# Altium integrated library Renesas Microcontroller H8S.IntLib: 670 symbols (part 65 of 70)
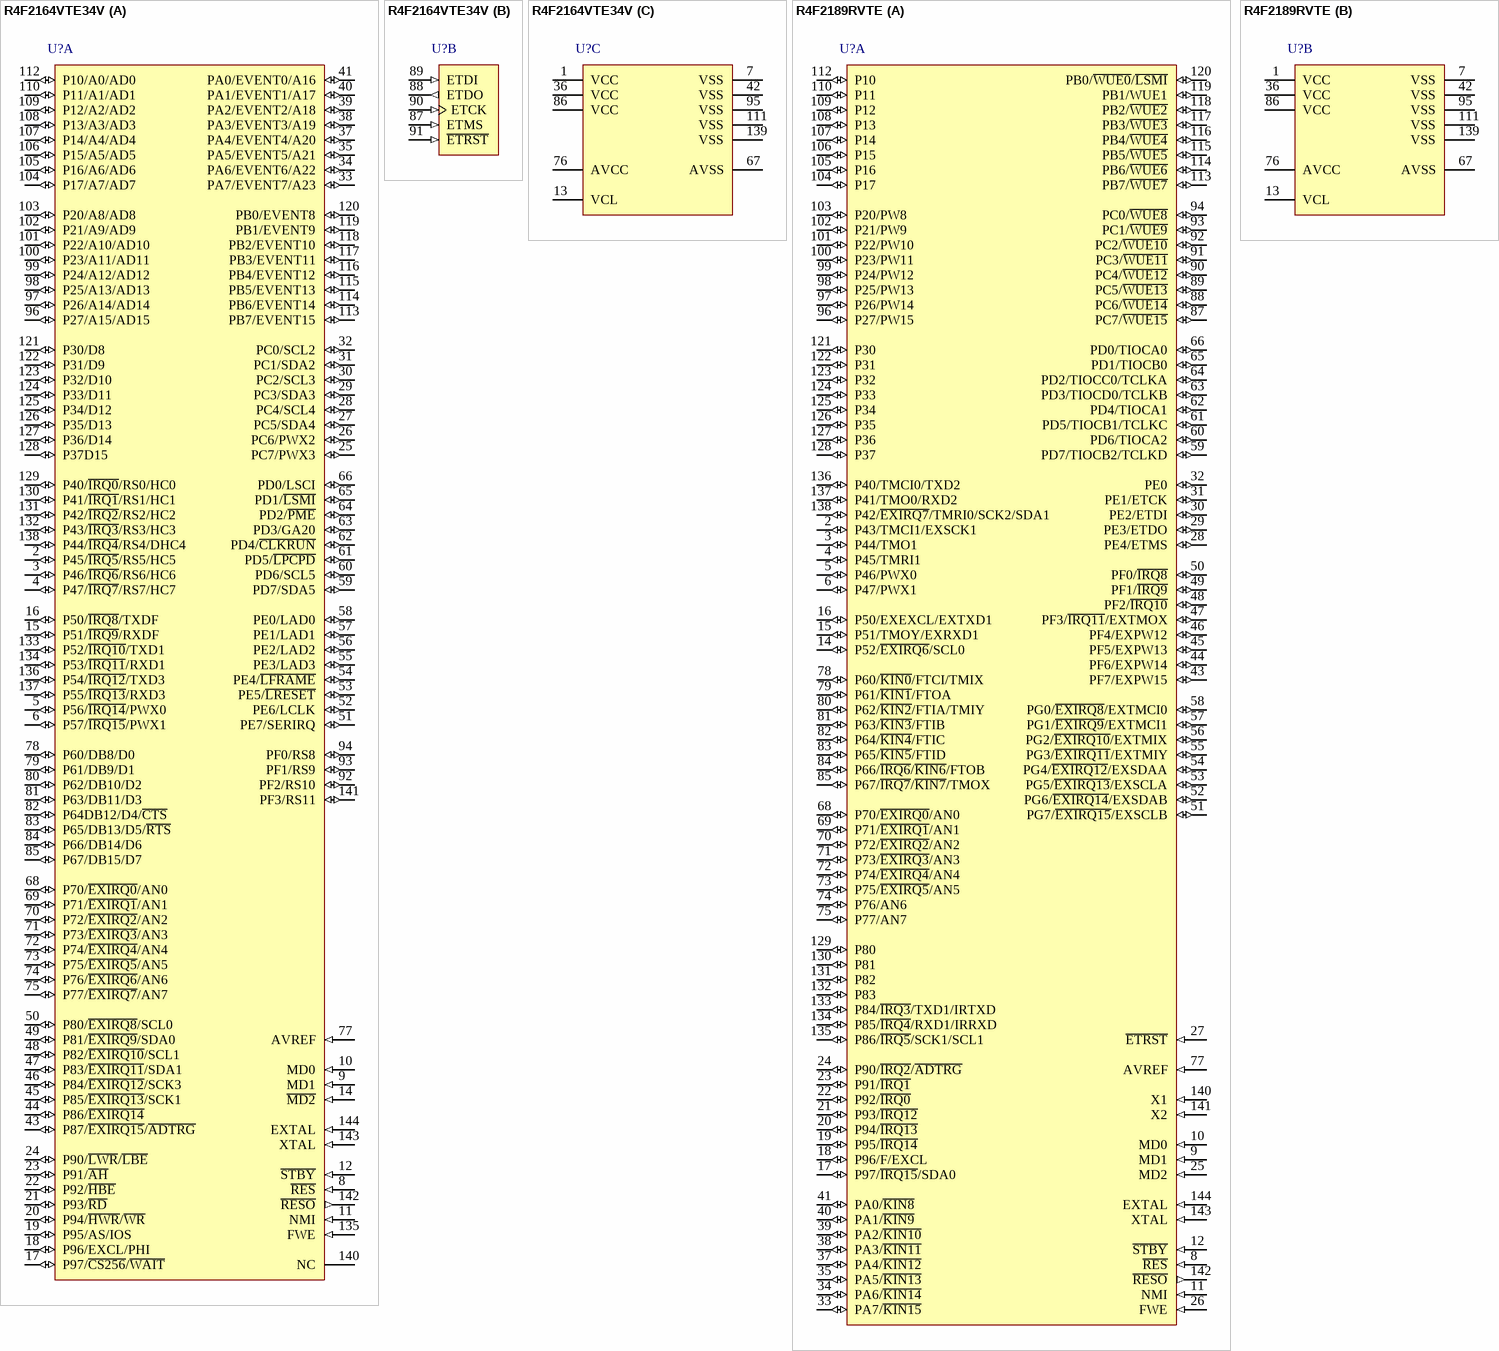
[diagram p277: symbols R4F2164VTE34V to R4F2189RVTE]

## R4F2164VTE34V
designator U?
Flash memory H8S/2100 Series, 2164 Group MCU, 512K ROM, 40K RAM, TFP-144V Pkg; Published: 28-Aug-2009; DatasheetVersion: Rev.2.00, Sep-2009; PackageVersion: Sep-2005; PackageReference: PTQP0144LC-A; Publisher: Altium Limited; PackageDescription: 144-Pin Plastic Thin Quad Flat Pack, 16 x 16 mm Body, 0.4 mm Pitch; Supplier 1: Digi-Key; Supplier Part Number 1: R4F2164VTE34V-ND; Code_JEITA: P-TQFP144-16x16-0.40; ComponentLink1Description: Manufacturer Link; ComponentLink1URL: http://sg.renesas.com/fmwk.jsp?cnt=h8s_family_landing.jsp&fp=/products/mpumcu/h8s_family/; ComponentLink2Description: Datasheet; ComponentLink2URL: http://documentation.renesas.com/eng/products/mpumcu/rej09b0429_h8s2164hm.pdf; ComponentLink3Description: Packaging Specification; ComponentLink3URL: http://sg.renesas.com/media/products/common_info/package/pdf/ic/code/ptqp0144lc_a.pdf
footprint PTQP0144LC-A_N (Thin QFP, 144-Leads, Body 16x16mm, Pitch 0.4mm, IPC Medium Density)
footprint PTQP0144LC-A_L (Thin QFP, 144-Leads, Body 16x16mm, Pitch 0.4mm, IPC High Density)
footprint PTQP0144LC-A_M (Thin QFP, 144-Leads, Body 16x16mm, Pitch 0.4mm, IPC Low Density)
part A pins: 2 P45/~{IRQ5}/RS5/HC5 (io), 3 P46/~{IRQ6}/RS6/HC6 (io), 4 P47/~{IRQ7}/RS7/HC7 (io), 5 P56/~{IRQ14}/PWX0 (io), 6 P57/~{IRQ15}/PWX1 (io), 8 ~{RES} (in), 9 MD1 (in), 10 MD0 (in), 11 NMI (in), 12 ~{STBY} (in), 14 ~{MD2} (in), 15 P51/~{IRQ9}/RXDF (io), 16 P50/~{IRQ8}/TXDF (io), 17 P97/~{CS256}/~{WAIT} (io), 18 P96/EXCL/PHI (io), 19 P95/AS/IOS (io), 20 P94/~{HWR}/~{WR} (io), 21 P93/~{RD} (io), 22 P92/~{HBE} (io), 23 P91/~{AH} (io), 24 P90/~{LWR}/~{LBE} (io), 25 PC7/PWX3 (io), 26 PC6/PWX2 (io), 27 PC5/SDA4 (io), 28 PC4/SCL4 (io), 29 PC3/SDA3 (io), 30 PC2/SCL3 (io), 31 PC1/SDA2 (io), 32 PC0/SCL2 (io), 33 PA7/EVENT7/A23 (io), 34 PA6/EVENT6/A22 (io), 35 PA5/EVENT5/A21 (io), 37 PA4/EVENT4/A20 (io), 38 PA3/EVENT3/A19 (io), 39 PA2/EVENT2/A18 (io), 40 PA1/EVENT1/A17 (io), 41 PA0/EVENT0/A16 (io), 43 P87/~{EXIRQ15}/~{ADTRG} (io), 44 P86/~{EXIRQ14} (io), 45 P85/~{EXIRQ13}/SCK1 (io), 46 P84/~{EXIRQ12}/SCK3 (io), 47 P83/~{EXIRQ11}/SDA1 (io), 48 P82/~{EXIRQ10}/SCL1 (io), 49 P81/~{EXIRQ9}/SDA0 (io), 50 P80/~{EXIRQ8}/SCL0 (io), 51 PE7/SERIRQ (io), 52 PE6/LCLK (io), 53 PE5/~{LRESET} (io), 54 PE4/~{LFRAME} (io), 55 PE3/LAD3 (io), 56 PE2/LAD2 (io), 57 PE1/LAD1 (io), 58 PE0/LAD0 (io), 59 PD7/SDA5 (io), 60 PD6/SCL5 (io), 61 PD5/~{LPCPD} (io), 62 PD4/~{CLKRUN} (io), 63 PD3/GA20 (io), 64 PD2/~{PME} (io), 65 PD1/~{LSMI} (io), 66 PD0/LSCI (io), 68 P70/~{EXIRQ0}/AN0 (io), 69 P71/~{EXIRQ1}/AN1 (io), 70 P72/~{EXIRQ2}/AN2 (io), 71 P73/~{EXIRQ3}/AN3 (io), 72 P74/~{EXIRQ4}/AN4 (io), 73 P75/~{EXIRQ5}/AN5 (io), 74 P76/~{EXIRQ6}/AN6 (io), 75 P77/~{EXIRQ7}/AN7 (io), 77 AVREF (in), 78 P60/DB8/D0 (io), 79 P61/DB9/D1 (io), 80 P62/DB10/D2 (io), 81 P63/DB11/D3 (io), 82 P64DB12/D4/~{CTS} (io), 83 P65/DB13/D5/~{RTS} (io), 84 P66/DB14/D6 (io), 85 P67/DB15/D7 (io), 92 PF2/RS10 (io), 93 PF1/RS9 (io), 94 PF0/RS8 (io), 96 P27/A15/AD15 (io), 97 P26/A14/AD14 (io), 98 P25/A13/AD13 (io), 99 P24/A12/AD12 (io), 100 P23/A11/AD11 (io), 101 P22/A10/AD10 (io), 102 P21/A9/AD9 (io), 103 P20/A8/AD8 (io), 104 P17/A7/AD7 (io), 105 P16/A6/AD6 (io), 106 P15/A5/AD5 (io), 107 P14/A4/AD4 (io), 108 P13/A3/AD3 (io), 109 P12/A2/AD2 (io), 110 P11/A1/AD1 (io), 112 P10/A0/AD0 (io), 113 PB7/EVENT15 (io), 114 PB6/EVENT14 (io), 115 PB5/EVENT13 (io), 116 PB4/EVENT12 (io), 117 PB3/EVENT11 (io), 118 PB2/EVENT10 (io), 119 PB1/EVENT9 (io), 120 PB0/EVENT8 (io), 121 P30/D8 (io), 122 P31/D9 (io), 123 P32/D10 (io), 124 P33/D11 (io), 125 P34/D12 (io), 126 P35/D13 (io), 127 P36/D14 (io), 128 P37D15 (io), 129 P40/~{IRQ0}/RS0/HC0 (io), 130 P41/~{IRQ1}/RS1/HC1 (io), 131 P42/~{IRQ2}/RS2/HC2 (io), 132 P43/~{IRQ3}/RS3/HC3 (io), 133 P52/~{IRQ10}/TXD1 (io), 134 P53/~{IRQ11}/RXD1 (io), 135 FWE (in), 136 P54/~{IRQ12}/TXD3 (io), 137 P55/~{IRQ13}/RXD3 (io), 138 P44/~{IRQ4}/RS4/DHC4 (io), 140 NC, 141 PF3/RS11 (io), 142 ~{RESO} (out), 143 XTAL (in), 144 EXTAL (in)
part B pins: 87 ETMS (in), 88 ETDO (out), 89 ETDI (in), 90 ETCK (in), 91 ~{ETRST} (in)
part C pins: 1 VCC (power), 7 VSS (power), 13 VCL, 36 VCC (power), 42 VSS (power), 67 AVSS (power), 76 AVCC (power), 86 VCC (power), 95 VSS (power), 111 VSS (power), 139 VSS (power)

## R4F2189RVTE
designator U?
Flash memory H8S/2100 Series, 2189R Group MCU, 1M ROM, 6K RAM, TFP-144 Pkg; Published: 28-Aug-2009; DatasheetVersion: Rev.2.00, Aug-2005; PackageVersion: Sep-2005; PackageReference: PTQP0144LC-A; Publisher: Altium Limited; PackageDescription: 144-Pin Plastic Thin Quad Flat Pack, 16 x 16 mm Body, 0.4 mm Pitch; Code_JEITA: P-TQFP144-16x16-0.40; ComponentLink1Description: Manufacturer Link; ComponentLink1URL: http://sg.renesas.com/fmwk.jsp?cnt=h8s_family_landing.jsp&fp=/products/mpumcu/h8s_family/; ComponentLink2Description: Datasheet; ComponentLink2URL: http://documentation.renesas.com/eng/products/mpumcu/rej09b0223_h8s2189.pdf; ComponentLink3Description: Packaging Specification; ComponentLink3URL: http://sg.renesas.com/media/products/common_info/package/pdf/ic/code/ptqp0144lc_a.pdf
footprint PTQP0144LC-A_N (Thin QFP, 144-Leads, Body 16x16mm, Pitch 0.4mm, IPC Medium Density)
footprint PTQP0144LC-A_L (Thin QFP, 144-Leads, Body 16x16mm, Pitch 0.4mm, IPC High Density)
footprint PTQP0144LC-A_M (Thin QFP, 144-Leads, Body 16x16mm, Pitch 0.4mm, IPC Low Density)
part A pins: 2 P43/TMCI1/EXSCK1 (io), 3 P44/TMO1 (io), 4 P45/TMRI1 (io), 5 P46/PWX0 (io), 6 P47/PWX1 (io), 8 ~{RES} (in), 9 MD1 (in), 10 MD0 (in), 11 NMI (in), 12 ~{STBY} (in), 14 P52/~{EXIRQ6}/SCL0 (io), 15 P51/TMOY/EXRXD1 (io), 16 P50/EXEXCL/EXTXD1 (io), 17 P97/~{IRQ15}/SDA0 (io), 18 P96/F/EXCL (io), 19 P95/~{IRQ14} (io), 20 P94/~{IRQ13} (io), 21 P93/~{IRQ12} (io), 22 P92/~{IRQ0} (io), 23 P91/~{IRQ1} (io), 24 P90/~{IRQ2}/~{ADTRG} (io), 25 MD2 (in), 26 FWE (in), 27 ~{ETRST} (in), 28 PE4/ETMS (io), 29 PE3/ETDO (io), 30 PE2/ETDI (io), 31 PE1/ETCK (io), 32 PE0 (io), 33 PA7/~{KIN15} (io), 34 PA6/~{KIN14} (io), 35 PA5/~{KIN13} (io), 37 PA4/~{KIN12} (io), 38 PA3/~{KIN11} (io), 39 PA2/~{KIN10} (io), 40 PA1/~{KIN9} (io), 41 PA0/~{KIN8} (io), 43 PF7/EXPW15 (io), 44 PF6/EXPW14 (io), 45 PF5/EXPW13 (io), 46 PF4/EXPW12 (io), 47 PF3/~{IRQ11}/EXTMOX (io), 48 PF2/~{IRQ10} (io), 49 PF1/~{IRQ9} (io), 50 PF0/~{IRQ8} (io), 51 PG7/~{EXIRQ15}/EXSCLB (io), 52 PG6/~{EXIRQ14}/EXSDAB (io), 53 PG5/~{EXIRQ13}/EXSCLA (io), 54 PG4/~{EXIRQ12}/EXSDAA (io), 55 PG3/~{EXIRQ11}/EXTMIY (io), 56 PG2/~{EXIRQ10}/EXTMIX (io), 57 PG1/~{EXIRQ9}/EXTMCI1 (io), 58 PG0/~{EXIRQ8}/EXTMCI0 (io), 59 PD7/TIOCB2/TCLKD (io), 60 PD6/TIOCA2 (io), 61 PD5/TIOCB1/TCLKC (io), 62 PD4/TIOCA1 (io), 63 PD3/TIOCD0/TCLKB (io), 64 PD2/TIOCC0/TCLKA (io), 65 PD1/TIOCB0 (io), 66 PD0/TIOCA0 (io), 68 P70/~{EXIRQ0}/AN0 (io), 69 P71/~{EXIRQ1}/AN1 (io), 70 P72/~{EXIRQ2}/AN2 (io), 71 P73/~{EXIRQ3}/AN3 (io), 72 P74/~{EXIRQ4}/AN4 (io), 73 P75/~{EXIRQ5}/AN5 (io), 74 P76/AN6 (io), 75 P77/AN7 (io), 77 AVREF (in), 78 P60/~{KIN0}/FTCI/TMIX (io), 79 P61/~{KIN1}/FTOA (io), 80 P62/~{KIN2}/FTIA/TMIY (io), 81 P63/~{KIN3}/FTIB (io), 82 P64/~{KIN4}/FTIC (io), 83 P65/~{KIN5}/FTID (io), 84 P66/~{IRQ6}/~{KIN6}/FTOB (io), 85 P67/~{IRQ7}/~{KIN7}/TMOX (io), 87 PC7/~{WUE15} (io), 88 PC6/~{WUE14} (io), 89 PC5/~{WUE13} (io), 90 PC4/~{WUE12} (io), 91 PC3/~{WUE11} (io), 92 PC2/~{WUE10} (io), 93 PC1/~{WUE9} (io), 94 PC0/~{WUE8} (io), 96 P27/PW15 (io), 97 P26/PW14 (io), 98 P25/PW13 (io), 99 P24/PW12 (io), 100 P23/PW11 (io), 101 P22/PW10 (io), 102 P21/PW9 (io), 103 P20/PW8 (io), 104 P17 (io), 105 P16 (io), 106 P15 (io), 107 P14 (io), 108 P13 (io), 109 P12 (io), 110 P11 (io), 112 P10 (io), 113 PB7/~{WUE7} (io), 114 PB6/~{WUE6} (io), 115 PB5/~{WUE5} (io), 116 PB4/~{WUE4} (io), 117 PB3/~{WUE3} (io), 118 PB2/~{WUE2} (io), 119 PB1/WUE1 (io), 120 PB0/~{WUE0}/~{LSMI} (io), 121 P30 (io), 122 P31 (io), 123 P32 (io), 124 P33 (io), 125 P34 (io), 126 P35 (io), 127 P36 (io), 128 P37 (io), 129 P80 (io), 130 P81 (io), 131 P82 (io), 132 P83 (io), 133 P84/~{IRQ3}/TXD1/IRTXD (io), 134 P85/~{IRQ4}/RXD1/IRRXD (io), 135 P86/~{IRQ5}/SCK1/SCL1 (io), 136 P40/TMCI0/TXD2 (io), 137 P41/TMO0/RXD2 (io), 138 P42/~{EXIRQ7}/TMRI0/SCK2/SDA1 (io), 140 X1 (in), 141 X2 (in), 142 ~{RESO} (out), 143 XTAL (in), 144 EXTAL (in)
part B pins: 1 VCC (power), 7 VSS (power), 13 VCL, 36 VCC (power), 42 VSS (power), 67 AVSS (power), 76 AVCC (power), 86 VCC (power), 95 VSS (power), 111 VSS (power), 139 VSS (power)

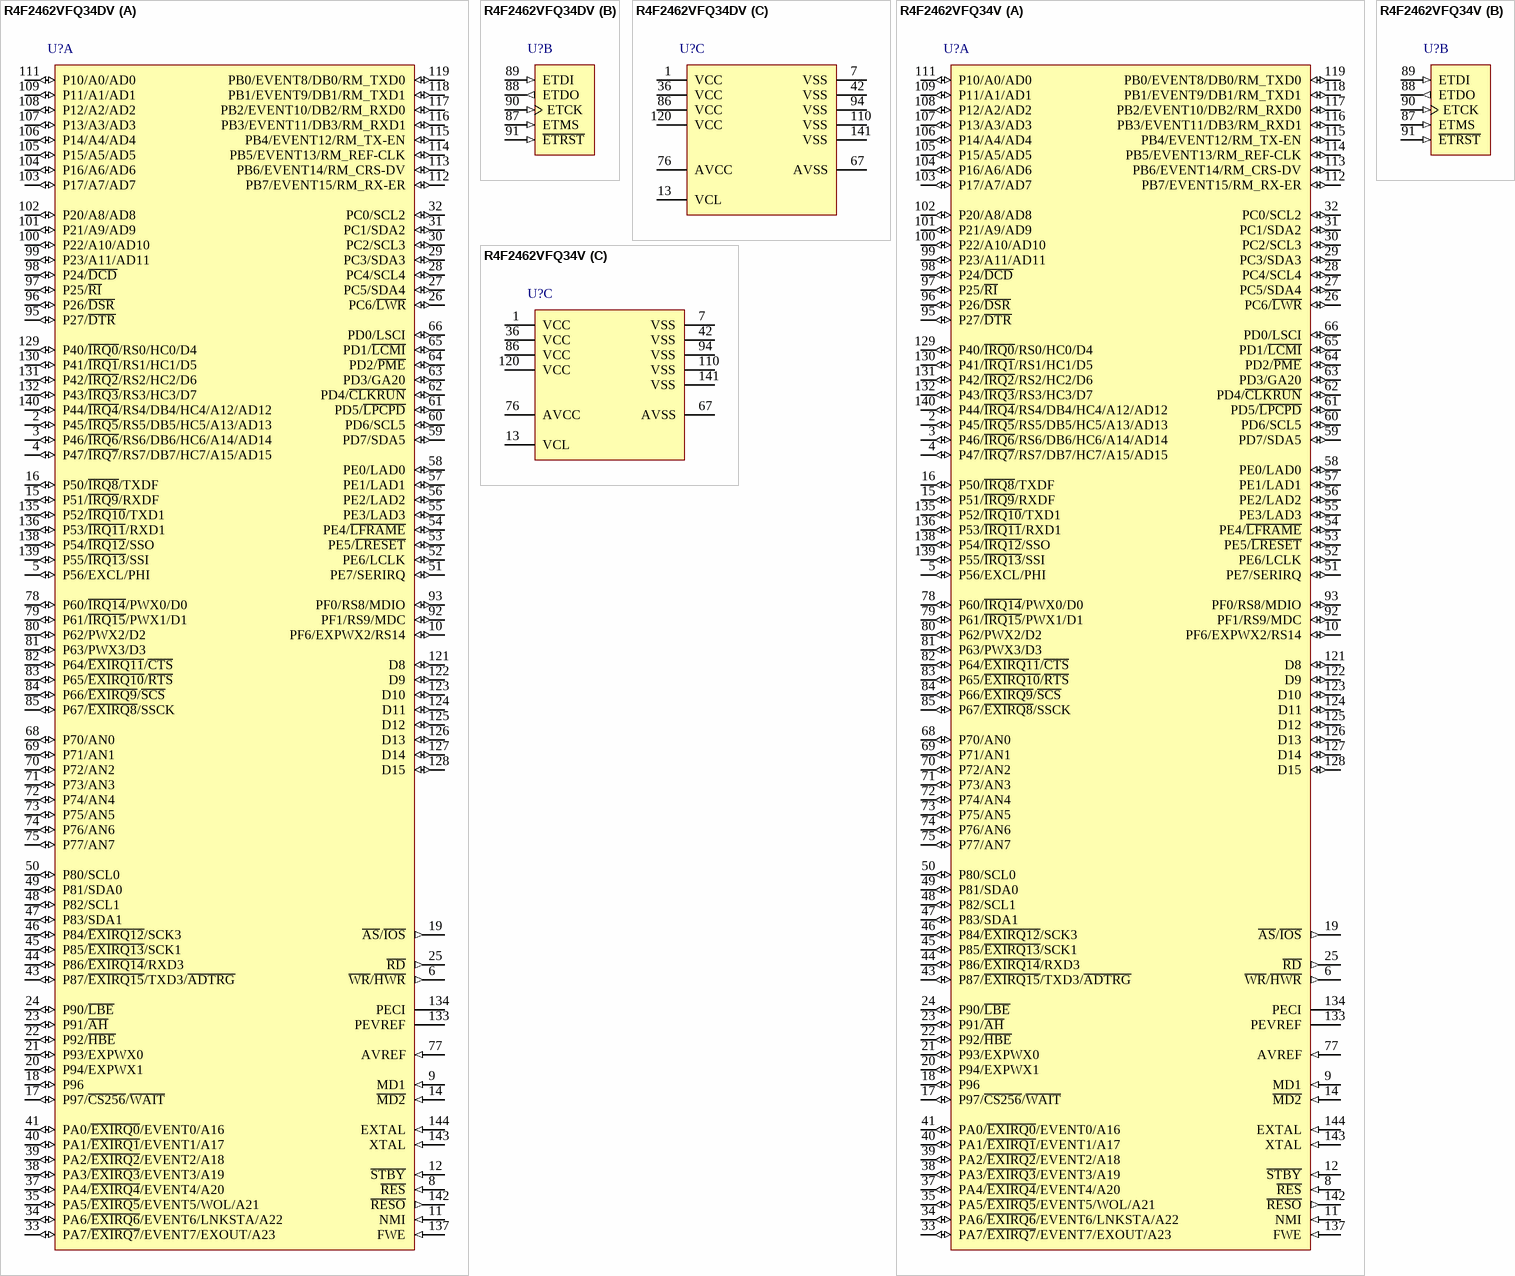
[diagram p225: symbols R4F2462VFQ34DV to R4F2462VFQ34V]

## R4F2462VFQ34DV
designator U?
Flash memory H8S/2400 Series, 2462 Group MCU, 512K ROM, 40K RAM, FP-144LV Pkg; Published: 12-Feb-2010; DatasheetVersion: Rev.2.00, Aug-2008; PackageVersion: Sep-2005; PackageReference: PLQP0144KA-A; Publisher: Altium Limited; PackageDescription: 144-Pin Plastic Low Profile QFP, 20 x 20 x 1.4 mm Body, 0.5 mm Pitch; Code_JEITA: P-LQFP144-20x20-0.50; Code_IPC: SQFP50P2200X2200-144; ComponentLink1Description: Manufacturer Link; ComponentLink1URL: http://sg.renesas.com/fmwk.jsp?cnt=h8s_family_landing.jsp&fp=/products/mpumcu/h8s_family/; ComponentLink2Description: Datasheet; ComponentLink2URL: http://documentation.renesas.com/eng/products/mpumcu/rej09b0403_h8s2472_2462hm.pdf; ComponentLink3Description: Packaging Specification; ComponentLink3URL: http://sg.renesas.com/media/products/common_info/package/pdf/ic/code/plqp0144ka_a.pdf
footprint PLQP0144KA-A_N (Shrink QFP, 144-Leads, Body 20x20mm, Pitch 0.5mm, IPC Medium Density)
footprint PLQP0144KA-A_L (Shrink QFP, 144-Leads, Body 20x20mm, Pitch 0.5mm, IPC High Density)
footprint PLQP0144KA-A_M (Shrink QFP, 144-Leads, Body 20x20mm, Pitch 0.5mm, IPC Low Density)
part A pins: 2 P45/~{IRQ5}/RS5/DB5/HC5/A13/AD13 (io), 3 P46/~{IRQ6}/RS6/DB6/HC6/A14/AD14 (io), 4 P47/~{IRQ7}/RS7/DB7/HC7/A15/AD15 (io), 5 P56/EXCL/PHI (io), 6 ~{WR}/~{HWR} (out), 8 ~{RES} (in), 9 MD1 (in), 10 PF6/EXPWX2/RS14 (io), 11 NMI (in), 12 ~{STBY} (in), 14 ~{MD2} (in), 15 P51/~{IRQ9}/RXDF (io), 16 P50/~{IRQ8}/TXDF (io), 17 P97/~{CS256}/~{WAIT} (io), 18 P96 (io), 19 ~{AS}/~{IOS} (out), 20 P94/EXPWX1 (io), 21 P93/EXPWX0 (io), 22 P92/~{HBE} (io), 23 P91/~{AH} (io), 24 P90/~{LBE} (io), 25 ~{RD} (out), 26 PC6/~{LWR} (io), 27 PC5/SDA4 (io), 28 PC4/SCL4 (io), 29 PC3/SDA3 (io), 30 PC2/SCL3 (io), 31 PC1/SDA2 (io), 32 PC0/SCL2 (io), 33 PA7/~{EXIRQ7}/EVENT7/EXOUT/A23 (io), 34 PA6/~{EXIRQ6}/EVENT6/LNKSTA/A22 (io), 35 PA5/~{EXIRQ5}/EVENT5/WOL/A21 (io), 37 PA4/~{EXIRQ4}/EVENT4/A20 (io), 38 PA3/~{EXIRQ3}/EVENT3/A19 (io), 39 PA2/~{EXIRQ2}/EVENT2/A18 (io), 40 PA1/~{EXIRQ1}/EVENT1/A17 (io), 41 PA0/~{EXIRQ0}/EVENT0/A16 (io), 43 P87/~{EXIRQ15}/TXD3/~{ADTRG} (io), 44 P86/~{EXIRQ14}/RXD3 (io), 45 P85/~{EXIRQ13}/SCK1 (io), 46 P84/~{EXIRQ12}/SCK3 (io), 47 P83/SDA1 (io), 48 P82/SCL1 (io), 49 P81/SDA0 (io), 50 P80/SCL0 (io), 51 PE7/SERIRQ (io), 52 PE6/LCLK (io), 53 PE5/~{LRESET} (io), 54 PE4/~{LFRAME} (io), 55 PE3/LAD3 (io), 56 PE2/LAD2 (io), 57 PE1/LAD1 (io), 58 PE0/LAD0 (io), 59 PD7/SDA5 (io), 60 PD6/SCL5 (io), 61 PD5/~{LPCPD} (io), 62 PD4/~{CLKRUN} (io), 63 PD3/GA20 (io), 64 PD2/~{PME} (io), 65 PD1/~{LCMI} (io), 66 PD0/LSCI (io), 68 P70/AN0 (io), 69 P71/AN1 (io), 70 P72/AN2 (io), 71 P73/AN3 (io), 72 P74/AN4 (io), 73 P75/AN5 (io), 74 P76/AN6 (io), 75 P77/AN7 (io), 77 AVREF (in), 78 P60/~{IRQ14}/PWX0/D0 (io), 79 P61/~{IRQ15}/PWX1/D1 (io), 80 P62/PWX2/D2 (io), 81 P63/PWX3/D3 (io), 82 P64/~{EXIRQ11}/~{CTS} (io), 83 P65/~{EXIRQ10}/~{RTS} (io), 84 P66/~{EXIRQ9}/~{SCS} (io), 85 P67/~{EXIRQ8}/SSCK (io), 92 PF1/RS9/MDC (io), 93 PF0/RS8/MDIO (io), 95 P27/~{DTR} (io), 96 P26/~{DSR} (io), 97 P25/~{RI} (io), 98 P24/~{DCD} (io), 99 P23/A11/AD11 (io), 100 P22/A10/AD10 (io), 101 P21/A9/AD9 (io), 102 P20/A8/AD8 (io), 103 P17/A7/AD7 (io), 104 P16/A6/AD6 (io), 105 P15/A5/AD5 (io), 106 P14/A4/AD4 (io), 107 P13/A3/AD3 (io), 108 P12/A2/AD2 (io), 109 P11/A1/AD1 (io), 111 P10/A0/AD0 (io), 112 PB7/EVENT15/RM_RX-ER (io), 113 PB6/EVENT14/RM_CRS-DV (io), 114 PB5/EVENT13/RM_REF-CLK (io), 115 PB4/EVENT12/RM_TX-EN (io), 116 PB3/EVENT11/DB3/RM_RXD1 (io), 117 PB2/EVENT10/DB2/RM_RXD0 (io), 118 PB1/EVENT9/DB1/RM_TXD1 (io), 119 PB0/EVENT8/DB0/RM_TXD0 (io), 121 D8 (io), 122 D9 (io), 123 D10 (io), 124 D11 (io), 125 D12 (io), 126 D13 (io), 127 D14 (io), 128 D15 (io), 129 P40/~{IRQ0}/RS0/HC0/D4 (io), 130 P41/~{IRQ1}/RS1/HC1/D5 (io), 131 P42/~{IRQ2}/RS2/HC2/D6 (io), 132 P43/~{IRQ3}/RS3/HC3/D7 (io), 133 PEVREF, 134 PECI, 135 P52/~{IRQ10}/TXD1 (io), 136 P53/~{IRQ11}/RXD1 (io), 137 FWE (in), 138 P54/~{IRQ12}/SSO (io), 139 P55/~{IRQ13}/SSI (io), 140 P44/~{IRQ4}/RS4/DB4/HC4/A12/AD12 (io), 142 ~{RESO} (out), 143 XTAL (in), 144 EXTAL (in)
part B pins: 87 ETMS (in), 88 ETDO (out), 89 ETDI (in), 90 ETCK (in), 91 ~{ETRST} (in)
part C pins: 1 VCC (power), 7 VSS (power), 13 VCL, 36 VCC (power), 42 VSS (power), 67 AVSS (power), 76 AVCC (power), 86 VCC (power), 94 VSS (power), 110 VSS (power), 120 VCC (power), 141 VSS (power)

## R4F2462VFQ34V
designator U?
Flash memory H8S/2400 Series, 2462 Group MCU, 512K ROM, 40K RAM, FP-144LV Pkg; Published: 12-Feb-2010; DatasheetVersion: Rev.2.00, Aug-2008; PackageVersion: Sep-2005; PackageReference: PLQP0144KA-A; Publisher: Altium Limited; PackageDescription: 144-Pin Plastic Low Profile QFP, 20 x 20 x 1.4 mm Body, 0.5 mm Pitch; Supplier 1: Digi-Key; Supplier Part Number 1: R4F2462VFQ34V-ND; Code_JEITA: P-LQFP144-20x20-0.50; Code_IPC: SQFP50P2200X2200-144; ComponentLink1Description: Manufacturer Link; ComponentLink1URL: http://sg.renesas.com/fmwk.jsp?cnt=h8s_family_landing.jsp&fp=/products/mpumcu/h8s_family/; ComponentLink2Description: Datasheet; ComponentLink2URL: http://documentation.renesas.com/eng/products/mpumcu/rej09b0403_h8s2472_2462hm.pdf; ComponentLink3Description: Packaging Specification; ComponentLink3URL: http://sg.renesas.com/media/products/common_info/package/pdf/ic/code/plqp0144ka_a.pdf
footprint PLQP0144KA-A_N (Shrink QFP, 144-Leads, Body 20x20mm, Pitch 0.5mm, IPC Medium Density)
footprint PLQP0144KA-A_L (Shrink QFP, 144-Leads, Body 20x20mm, Pitch 0.5mm, IPC High Density)
footprint PLQP0144KA-A_M (Shrink QFP, 144-Leads, Body 20x20mm, Pitch 0.5mm, IPC Low Density)
part A pins: 2 P45/~{IRQ5}/RS5/DB5/HC5/A13/AD13 (io), 3 P46/~{IRQ6}/RS6/DB6/HC6/A14/AD14 (io), 4 P47/~{IRQ7}/RS7/DB7/HC7/A15/AD15 (io), 5 P56/EXCL/PHI (io), 6 ~{WR}/~{HWR} (out), 8 ~{RES} (in), 9 MD1 (in), 10 PF6/EXPWX2/RS14 (io), 11 NMI (in), 12 ~{STBY} (in), 14 ~{MD2} (in), 15 P51/~{IRQ9}/RXDF (io), 16 P50/~{IRQ8}/TXDF (io), 17 P97/~{CS256}/~{WAIT} (io), 18 P96 (io), 19 ~{AS}/~{IOS} (out), 20 P94/EXPWX1 (io), 21 P93/EXPWX0 (io), 22 P92/~{HBE} (io), 23 P91/~{AH} (io), 24 P90/~{LBE} (io), 25 ~{RD} (out), 26 PC6/~{LWR} (io), 27 PC5/SDA4 (io), 28 PC4/SCL4 (io), 29 PC3/SDA3 (io), 30 PC2/SCL3 (io), 31 PC1/SDA2 (io), 32 PC0/SCL2 (io), 33 PA7/~{EXIRQ7}/EVENT7/EXOUT/A23 (io), 34 PA6/~{EXIRQ6}/EVENT6/LNKSTA/A22 (io), 35 PA5/~{EXIRQ5}/EVENT5/WOL/A21 (io), 37 PA4/~{EXIRQ4}/EVENT4/A20 (io), 38 PA3/~{EXIRQ3}/EVENT3/A19 (io), 39 PA2/~{EXIRQ2}/EVENT2/A18 (io), 40 PA1/~{EXIRQ1}/EVENT1/A17 (io), 41 PA0/~{EXIRQ0}/EVENT0/A16 (io), 43 P87/~{EXIRQ15}/TXD3/~{ADTRG} (io), 44 P86/~{EXIRQ14}/RXD3 (io), 45 P85/~{EXIRQ13}/SCK1 (io), 46 P84/~{EXIRQ12}/SCK3 (io), 47 P83/SDA1 (io), 48 P82/SCL1 (io), 49 P81/SDA0 (io), 50 P80/SCL0 (io), 51 PE7/SERIRQ (io), 52 PE6/LCLK (io), 53 PE5/~{LRESET} (io), 54 PE4/~{LFRAME} (io), 55 PE3/LAD3 (io), 56 PE2/LAD2 (io), 57 PE1/LAD1 (io), 58 PE0/LAD0 (io), 59 PD7/SDA5 (io), 60 PD6/SCL5 (io), 61 PD5/~{LPCPD} (io), 62 PD4/~{CLKRUN} (io), 63 PD3/GA20 (io), 64 PD2/~{PME} (io), 65 PD1/~{LCMI} (io), 66 PD0/LSCI (io), 68 P70/AN0 (io), 69 P71/AN1 (io), 70 P72/AN2 (io), 71 P73/AN3 (io), 72 P74/AN4 (io), 73 P75/AN5 (io), 74 P76/AN6 (io), 75 P77/AN7 (io), 77 AVREF (in), 78 P60/~{IRQ14}/PWX0/D0 (io), 79 P61/~{IRQ15}/PWX1/D1 (io), 80 P62/PWX2/D2 (io), 81 P63/PWX3/D3 (io), 82 P64/~{EXIRQ11}/~{CTS} (io), 83 P65/~{EXIRQ10}/~{RTS} (io), 84 P66/~{EXIRQ9}/~{SCS} (io), 85 P67/~{EXIRQ8}/SSCK (io), 92 PF1/RS9/MDC (io), 93 PF0/RS8/MDIO (io), 95 P27/~{DTR} (io), 96 P26/~{DSR} (io), 97 P25/~{RI} (io), 98 P24/~{DCD} (io), 99 P23/A11/AD11 (io), 100 P22/A10/AD10 (io), 101 P21/A9/AD9 (io), 102 P20/A8/AD8 (io), 103 P17/A7/AD7 (io), 104 P16/A6/AD6 (io), 105 P15/A5/AD5 (io), 106 P14/A4/AD4 (io), 107 P13/A3/AD3 (io), 108 P12/A2/AD2 (io), 109 P11/A1/AD1 (io), 111 P10/A0/AD0 (io), 112 PB7/EVENT15/RM_RX-ER (io), 113 PB6/EVENT14/RM_CRS-DV (io), 114 PB5/EVENT13/RM_REF-CLK (io), 115 PB4/EVENT12/RM_TX-EN (io), 116 PB3/EVENT11/DB3/RM_RXD1 (io), 117 PB2/EVENT10/DB2/RM_RXD0 (io), 118 PB1/EVENT9/DB1/RM_TXD1 (io), 119 PB0/EVENT8/DB0/RM_TXD0 (io), 121 D8 (io), 122 D9 (io), 123 D10 (io), 124 D11 (io), 125 D12 (io), 126 D13 (io), 127 D14 (io), 128 D15 (io), 129 P40/~{IRQ0}/RS0/HC0/D4 (io), 130 P41/~{IRQ1}/RS1/HC1/D5 (io), 131 P42/~{IRQ2}/RS2/HC2/D6 (io), 132 P43/~{IRQ3}/RS3/HC3/D7 (io), 133 PEVREF, 134 PECI, 135 P52/~{IRQ10}/TXD1 (io), 136 P53/~{IRQ11}/RXD1 (io), 137 FWE (in), 138 P54/~{IRQ12}/SSO (io), 139 P55/~{IRQ13}/SSI (io), 140 P44/~{IRQ4}/RS4/DB4/HC4/A12/AD12 (io), 142 ~{RESO} (out), 143 XTAL (in), 144 EXTAL (in)
part B pins: 87 ETMS (in), 88 ETDO (out), 89 ETDI (in), 90 ETCK (in), 91 ~{ETRST} (in)
part C pins: 1 VCC (power), 7 VSS (power), 13 VCL, 36 VCC (power), 42 VSS (power), 67 AVSS (power), 76 AVCC (power), 86 VCC (power), 94 VSS (power), 110 VSS (power), 120 VCC (power), 141 VSS (power)

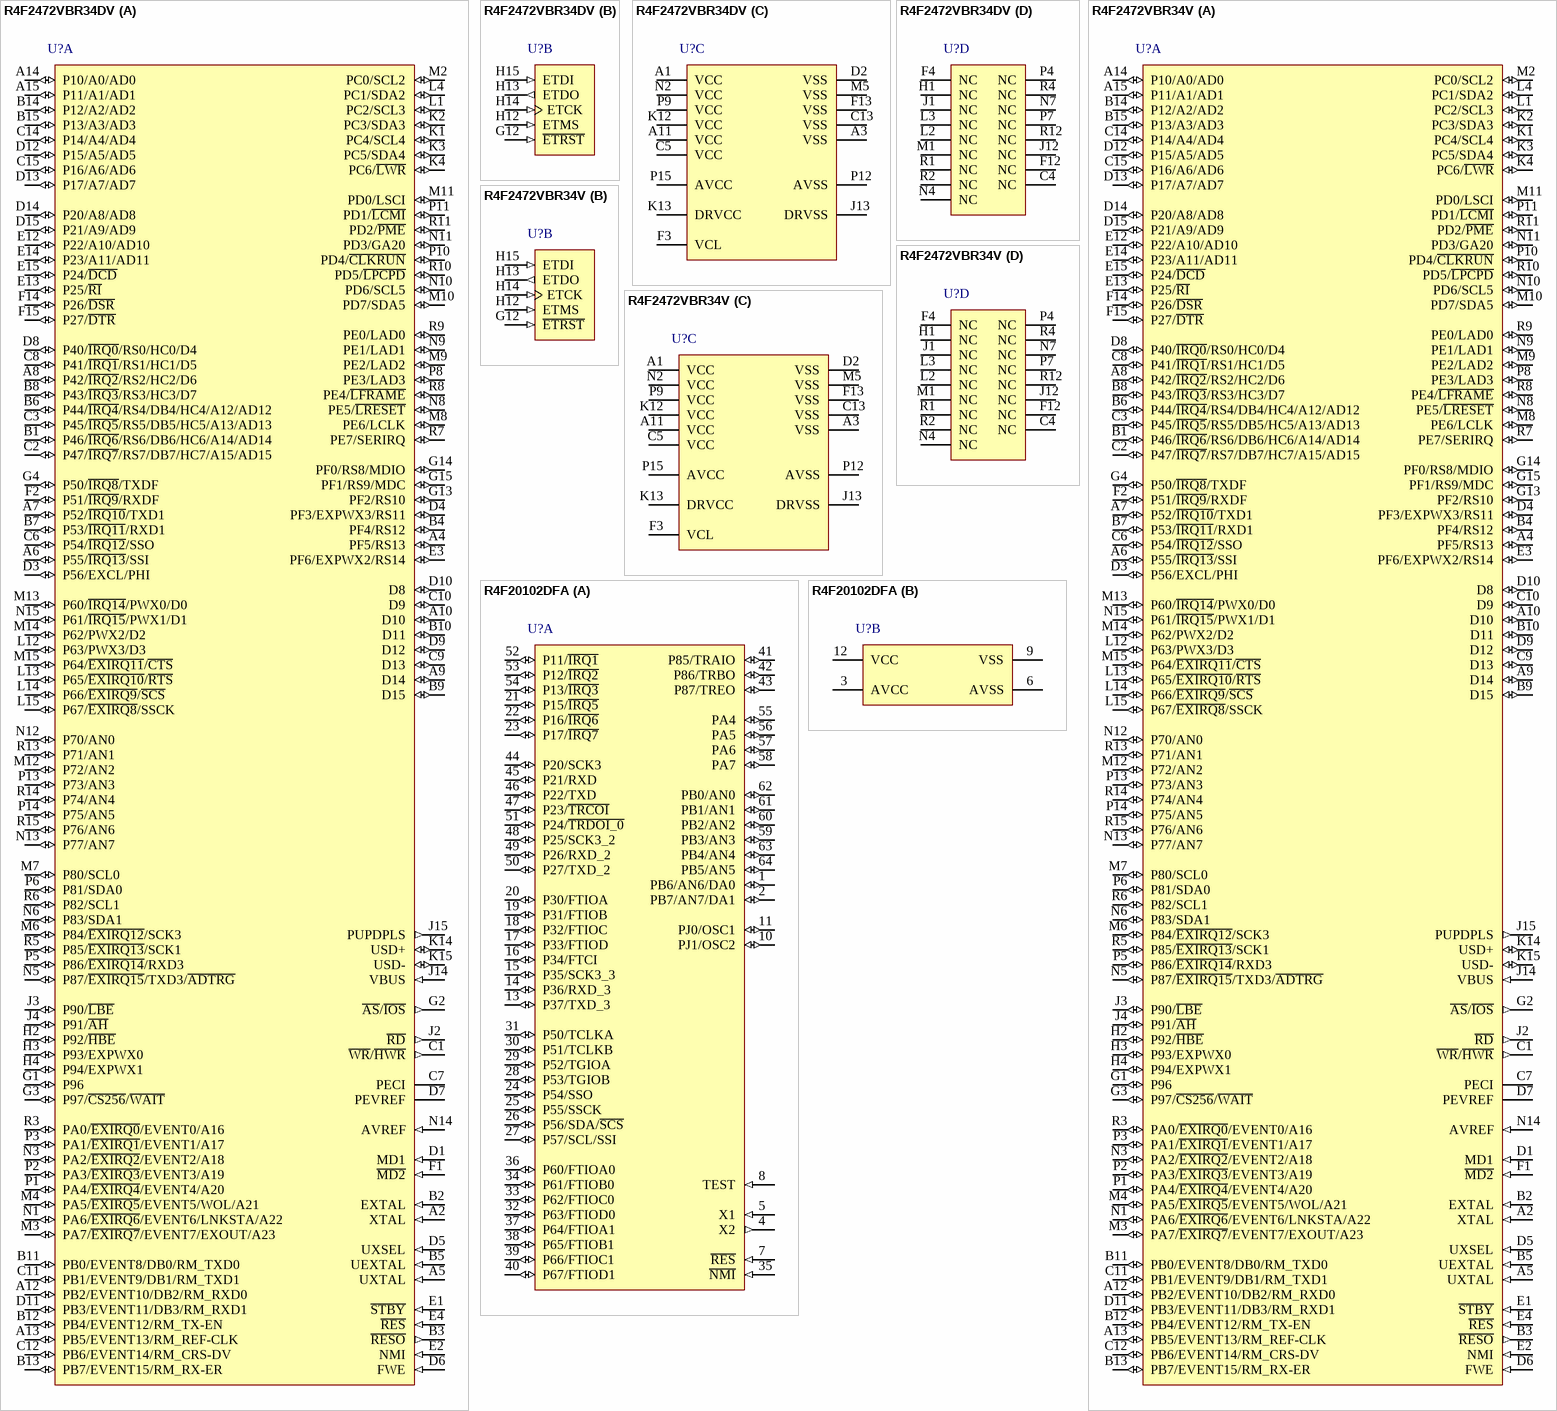
[diagram p226: symbols R4F2472VBR34DV to R4F20102DFA]

## R4F2472VBR34DV
designator U?
Flash memory H8S/2400 Series, 2472 Group MCU, 512K ROM, 40K RAM, BP-176V Pkg; Published: 12-Feb-2010; DatasheetVersion: Rev.2.00, Aug-2008; PackageVersion: Apr-2006; PackageReference: PLBG0176GA-A; Publisher: Altium Limited; PackageDescription: 176-Ball Plastic Low Profile Fine-Pitch BGA, 13 x 13 mm Body, 0.8 mm Pitch; Supplier 1: Digi-Key; Supplier Part Number 1: R4F2472VBR34DV-ND; Code_JEITA: P-LFBGA176-13x13-0.80; ComponentLink1Description: Manufacturer Link; ComponentLink1URL: http://sg.renesas.com/fmwk.jsp?cnt=h8s_family_landing.jsp&fp=/products/mpumcu/h8s_family/; ComponentLink2Description: Datasheet; ComponentLink2URL: http://documentation.renesas.com/eng/products/mpumcu/rej09b0403_h8s2472_2462hm.pdf; ComponentLink3Description: Packaging Specification; ComponentLink3URL: http://sg.renesas.com/media/products/common_info/package/pdf/ic/code/plbg0176ga_a.pdf
footprint PLBG0176GA-A (BGA, 176-Leads, Body 13x13mm, Pitch 0.8mm)
part A pins: A2 XTAL (in), A4 PF5/RS13 (io), A5 UXTAL (in), A6 P55/~{IRQ13}/SSI (io), A7 P52/~{IRQ10}/TXD1 (io), A8 P42/~{IRQ2}/RS2/HC2/D6 (io), A9 D14 (io), A10 D10 (io), A12 PB2/EVENT10/DB2/RM_RXD0 (io), A13 PB5/EVENT13/RM_REF-CLK (io), A14 P10/A0/AD0 (io), A15 P11/A1/AD1 (io), B1 P46/~{IRQ6}/RS6/DB6/HC6/A14/AD14 (io), B2 EXTAL (in), B3 ~{RESO} (out), B4 PF4/RS12 (io), B5 UEXTAL (in), B6 P44/~{IRQ4}/RS4/DB4/HC4/A12/AD12 (io), B7 P53/~{IRQ11}/RXD1 (io), B8 P43/~{IRQ3}/RS3/HC3/D7 (io), B9 D15 (io), B10 D11 (io), B11 PB0/EVENT8/DB0/RM_TXD0 (io), B12 PB4/EVENT12/RM_TX-EN (io), B13 PB7/EVENT15/RM_RX-ER (io), B14 P12/A2/AD2 (io), B15 P13/A3/AD3 (io), C1 ~{WR}/~{HWR} (out), C2 P47/~{IRQ7}/RS7/DB7/HC7/A15/AD15 (io), C3 P45/~{IRQ5}/RS5/DB5/HC5/A13/AD13 (io), C6 P54/~{IRQ12}/SSO (io), C7 PECI, C8 P41/~{IRQ1}/RS1/HC1/D5 (io), C9 D13 (io), C10 D9 (io), C11 PB1/EVENT9/DB1/RM_TXD1 (io), C12 PB6/EVENT14/RM_CRS-DV (io), C14 P14/A4/AD4 (io), C15 P16/A6/AD6 (io), D1 MD1 (in), D3 P56/EXCL/PHI (io), D4 PF3/EXPWX3/RS11 (io), D5 UXSEL (in), D6 FWE (in), D7 PEVREF, D8 P40/~{IRQ0}/RS0/HC0/D4 (io), D9 D12 (io), D10 D8 (io), D11 PB3/EVENT11/DB3/RM_RXD1 (io), D12 P15/A5/AD5 (io), D13 P17/A7/AD7 (io), D14 P20/A8/AD8 (io), D15 P21/A9/AD9 (io), E1 ~{STBY} (in), E2 NMI (in), E3 PF6/EXPWX2/RS14 (io), E4 ~{RES} (in), E12 P22/A10/AD10 (io), E13 P25/~{RI} (io), E14 P23/A11/AD11 (io), E15 P24/~{DCD} (io), F1 ~{MD2} (in), F2 P51/~{IRQ9}/RXDF (io), F14 P26/~{DSR} (io), F15 P27/~{DTR} (io), G1 P96 (io), G2 ~{AS}/~{IOS} (out), G3 P97/~{CS256}/~{WAIT} (io), G4 P50/~{IRQ8}/TXDF (io), G13 PF2/RS10 (io), G14 PF0/RS8/MDIO (io), G15 PF1/RS9/MDC (io), H2 P92/~{HBE} (io), H3 P93/EXPWX0 (io), H4 P94/EXPWX1 (io), J2 ~{RD} (out), J3 P90/~{LBE} (io), J4 P91/~{AH} (io), J14 VBUS (in), J15 PUPDPLS (out), K1 PC4/SCL4 (io), K2 PC3/SDA3 (io), K3 PC5/SDA4 (io), K4 PC6/~{LWR} (io), K14 USD+ (io), K15 USD- (io), L1 PC2/SCL3 (io), L4 PC1/SDA2 (io), L12 P63/PWX3/D3 (io), L13 P65/~{EXIRQ10}/~{RTS} (io), L14 P66/~{EXIRQ9}/~{SCS} (io), L15 P67/~{EXIRQ8}/SSCK (io), M2 PC0/SCL2 (io), M3 PA7/~{EXIRQ7}/EVENT7/EXOUT/A23 (io), M4 PA5/~{EXIRQ5}/EVENT5/WOL/A21 (io), M6 P84/~{EXIRQ12}/SCK3 (io), M7 P80/SCL0 (io), M8 PE6/LCLK (io), M9 PE2/LAD2 (io), M10 PD7/SDA5 (io), M11 PD0/LSCI (io), M12 P72/AN2 (io), M13 P60/~{IRQ14}/PWX0/D0 (io), M14 P62/PWX2/D2 (io), M15 P64/~{EXIRQ11}/~{CTS} (io), N1 PA6/~{EXIRQ6}/EVENT6/LNKSTA/A22 (io), N3 PA2/~{EXIRQ2}/EVENT2/A18 (io), N5 P87/~{EXIRQ15}/TXD3/~{ADTRG} (io), N6 P83/SDA1 (io), N8 PE5/~{LRESET} (io), N9 PE1/LAD1 (io), N10 PD6/SCL5 (io), N11 PD3/GA20 (io), N12 P70/AN0 (io), N13 P77/AN7 (io), N14 AVREF (in), N15 P61/~{IRQ15}/PWX1/D1 (io), P1 PA4/~{EXIRQ4}/EVENT4/A20 (io), P2 PA3/~{EXIRQ3}/EVENT3/A19 (io), P3 PA1/~{EXIRQ1}/EVENT1/A17 (io), P5 P86/~{EXIRQ14}/RXD3 (io), P6 P81/SDA0 (io), P8 PE3/LAD3 (io), P10 PD4/~{CLKRUN} (io), P11 PD1/~{LCMI} (io), P13 P73/AN3 (io), P14 P75/AN5 (io), R3 PA0/~{EXIRQ0}/EVENT0/A16 (io), R5 P85/~{EXIRQ13}/SCK1 (io), R6 P82/SCL1 (io), R7 PE7/SERIRQ (io), R8 PE4/~{LFRAME} (io), R9 PE0/LAD0 (io), R10 PD5/~{LPCPD} (io), R11 PD2/~{PME} (io), R13 P71/AN1 (io), R14 P74/AN4 (io), R15 P76/AN6 (io)
part B pins: G12 ~{ETRST} (in), H12 ETMS (in), H13 ETDO (out), H14 ETCK (in), H15 ETDI (in)
part C pins: A1 VCC (power), A3 VSS (power), A11 VCC (power), C5 VCC (power), C13 VSS (power), D2 VSS (power), F3 VCL, F13 VSS (power), J13 DRVSS (power), K12 VCC (power), K13 DRVCC (power), M5 VSS (power), N2 VCC (power), P9 VCC (power), P12 AVSS (power), P15 AVCC (power)
part D pins: C4 NC, F4 NC, F12 NC, H1 NC, J1 NC, J12 NC, L2 NC, L3 NC, M1 NC, N4 NC, N7 NC, P4 NC, P7 NC, R1 NC, R2 NC, R4 NC, R12 NC

## R4F2472VBR34V
designator U?
Flash memory H8S/2400 Series, 2472 Group MCU, 512K ROM, 40K RAM, BP-176V Pkg; Published: 12-Feb-2010; DatasheetVersion: Rev.2.00, Aug-2008; PackageVersion: Apr-2006; PackageReference: PLBG0176GA-A; Publisher: Altium Limited; PackageDescription: 176-Ball Plastic Low Profile Fine-Pitch BGA, 13 x 13 mm Body, 0.8 mm Pitch; Supplier 1: Digi-Key; Supplier Part Number 1: R4F2472VBR34V-ND; Supplier 2: Farnell; Supplier Part Number 2: 1677796; Code_JEITA: P-LFBGA176-13x13-0.80; ComponentLink1Description: Manufacturer Link; ComponentLink1URL: http://sg.renesas.com/fmwk.jsp?cnt=h8s_family_landing.jsp&fp=/products/mpumcu/h8s_family/; ComponentLink2Description: Datasheet; ComponentLink2URL: http://documentation.renesas.com/eng/products/mpumcu/rej09b0403_h8s2472_2462hm.pdf; ComponentLink3Description: Packaging Specification; ComponentLink3URL: http://sg.renesas.com/media/products/common_info/package/pdf/ic/code/plbg0176ga_a.pdf
footprint PLBG0176GA-A (BGA, 176-Leads, Body 13x13mm, Pitch 0.8mm)
part A pins: A2 XTAL (in), A4 PF5/RS13 (io), A5 UXTAL (in), A6 P55/~{IRQ13}/SSI (io), A7 P52/~{IRQ10}/TXD1 (io), A8 P42/~{IRQ2}/RS2/HC2/D6 (io), A9 D14 (io), A10 D10 (io), A12 PB2/EVENT10/DB2/RM_RXD0 (io), A13 PB5/EVENT13/RM_REF-CLK (io), A14 P10/A0/AD0 (io), A15 P11/A1/AD1 (io), B1 P46/~{IRQ6}/RS6/DB6/HC6/A14/AD14 (io), B2 EXTAL (in), B3 ~{RESO} (out), B4 PF4/RS12 (io), B5 UEXTAL (in), B6 P44/~{IRQ4}/RS4/DB4/HC4/A12/AD12 (io), B7 P53/~{IRQ11}/RXD1 (io), B8 P43/~{IRQ3}/RS3/HC3/D7 (io), B9 D15 (io), B10 D11 (io), B11 PB0/EVENT8/DB0/RM_TXD0 (io), B12 PB4/EVENT12/RM_TX-EN (io), B13 PB7/EVENT15/RM_RX-ER (io), B14 P12/A2/AD2 (io), B15 P13/A3/AD3 (io), C1 ~{WR}/~{HWR} (out), C2 P47/~{IRQ7}/RS7/DB7/HC7/A15/AD15 (io), C3 P45/~{IRQ5}/RS5/DB5/HC5/A13/AD13 (io), C6 P54/~{IRQ12}/SSO (io), C7 PECI, C8 P41/~{IRQ1}/RS1/HC1/D5 (io), C9 D13 (io), C10 D9 (io), C11 PB1/EVENT9/DB1/RM_TXD1 (io), C12 PB6/EVENT14/RM_CRS-DV (io), C14 P14/A4/AD4 (io), C15 P16/A6/AD6 (io), D1 MD1 (in), D3 P56/EXCL/PHI (io), D4 PF3/EXPWX3/RS11 (io), D5 UXSEL (in), D6 FWE (in), D7 PEVREF, D8 P40/~{IRQ0}/RS0/HC0/D4 (io), D9 D12 (io), D10 D8 (io), D11 PB3/EVENT11/DB3/RM_RXD1 (io), D12 P15/A5/AD5 (io), D13 P17/A7/AD7 (io), D14 P20/A8/AD8 (io), D15 P21/A9/AD9 (io), E1 ~{STBY} (in), E2 NMI (in), E3 PF6/EXPWX2/RS14 (io), E4 ~{RES} (in), E12 P22/A10/AD10 (io), E13 P25/~{RI} (io), E14 P23/A11/AD11 (io), E15 P24/~{DCD} (io), F1 ~{MD2} (in), F2 P51/~{IRQ9}/RXDF (io), F14 P26/~{DSR} (io), F15 P27/~{DTR} (io), G1 P96 (io), G2 ~{AS}/~{IOS} (out), G3 P97/~{CS256}/~{WAIT} (io), G4 P50/~{IRQ8}/TXDF (io), G13 PF2/RS10 (io), G14 PF0/RS8/MDIO (io), G15 PF1/RS9/MDC (io), H2 P92/~{HBE} (io), H3 P93/EXPWX0 (io), H4 P94/EXPWX1 (io), J2 ~{RD} (out), J3 P90/~{LBE} (io), J4 P91/~{AH} (io), J14 VBUS (in), J15 PUPDPLS (out), K1 PC4/SCL4 (io), K2 PC3/SDA3 (io), K3 PC5/SDA4 (io), K4 PC6/~{LWR} (io), K14 USD+ (io), K15 USD- (io), L1 PC2/SCL3 (io), L4 PC1/SDA2 (io), L12 P63/PWX3/D3 (io), L13 P65/~{EXIRQ10}/~{RTS} (io), L14 P66/~{EXIRQ9}/~{SCS} (io), L15 P67/~{EXIRQ8}/SSCK (io), M2 PC0/SCL2 (io), M3 PA7/~{EXIRQ7}/EVENT7/EXOUT/A23 (io), M4 PA5/~{EXIRQ5}/EVENT5/WOL/A21 (io), M6 P84/~{EXIRQ12}/SCK3 (io), M7 P80/SCL0 (io), M8 PE6/LCLK (io), M9 PE2/LAD2 (io), M10 PD7/SDA5 (io), M11 PD0/LSCI (io), M12 P72/AN2 (io), M13 P60/~{IRQ14}/PWX0/D0 (io), M14 P62/PWX2/D2 (io), M15 P64/~{EXIRQ11}/~{CTS} (io), N1 PA6/~{EXIRQ6}/EVENT6/LNKSTA/A22 (io), N3 PA2/~{EXIRQ2}/EVENT2/A18 (io), N5 P87/~{EXIRQ15}/TXD3/~{ADTRG} (io), N6 P83/SDA1 (io), N8 PE5/~{LRESET} (io), N9 PE1/LAD1 (io), N10 PD6/SCL5 (io), N11 PD3/GA20 (io), N12 P70/AN0 (io), N13 P77/AN7 (io), N14 AVREF (in), N15 P61/~{IRQ15}/PWX1/D1 (io), P1 PA4/~{EXIRQ4}/EVENT4/A20 (io), P2 PA3/~{EXIRQ3}/EVENT3/A19 (io), P3 PA1/~{EXIRQ1}/EVENT1/A17 (io), P5 P86/~{EXIRQ14}/RXD3 (io), P6 P81/SDA0 (io), P8 PE3/LAD3 (io), P10 PD4/~{CLKRUN} (io), P11 PD1/~{LCMI} (io), P13 P73/AN3 (io), P14 P75/AN5 (io), R3 PA0/~{EXIRQ0}/EVENT0/A16 (io), R5 P85/~{EXIRQ13}/SCK1 (io), R6 P82/SCL1 (io), R7 PE7/SERIRQ (io), R8 PE4/~{LFRAME} (io), R9 PE0/LAD0 (io), R10 PD5/~{LPCPD} (io), R11 PD2/~{PME} (io), R13 P71/AN1 (io), R14 P74/AN4 (io), R15 P76/AN6 (io)
part B pins: G12 ~{ETRST} (in), H12 ETMS (in), H13 ETDO (out), H14 ETCK (in), H15 ETDI (in)
part C pins: A1 VCC (power), A3 VSS (power), A11 VCC (power), C5 VCC (power), C13 VSS (power), D2 VSS (power), F3 VCL, F13 VSS (power), J13 DRVSS (power), K12 VCC (power), K13 DRVCC (power), M5 VSS (power), N2 VCC (power), P9 VCC (power), P12 AVSS (power), P15 AVCC (power)
part D pins: C4 NC, F4 NC, F12 NC, H1 NC, J1 NC, J12 NC, L2 NC, L3 NC, M1 NC, N4 NC, N7 NC, P4 NC, P7 NC, R1 NC, R2 NC, R4 NC, R12 NC

## R4F20102DFA
designator U?
Flash memory H8S/Tiny Series, 20103 Group MCU, 96K ROM, 8K RAM, 64P6Q-A Pkg; Published: 28-Aug-2009; DatasheetVersion: Rev.2.00, Jun-2009; PackageVersion: Sep-2005; PackageReference: PLQP0064KB-A; Publisher: Altium Limited; PackageDescription: 64-Pin Plastic Low Profile QFP, 10 x 10 x 1.4 mm Body, 0.5 mm Pitch; Code_JEITA: P-LQFP64-10x10-0.50; Code_IPC: SQFP50P1200X1200-64; ComponentLink1Description: Manufacturer Link; ComponentLink1URL: http://sg.renesas.com/fmwk.jsp?cnt=h8s_family_landing.jsp&fp=/products/mpumcu/h8s_family/; ComponentLink2Description: Datasheet; ComponentLink2URL: http://documentation.renesas.com/eng/products/mpumcu/rej09b0465_h8s20103hm.pdf; ComponentLink3Description: Packaging Specification; ComponentLink3URL: http://sg.renesas.com/media/products/common_info/package/pdf/ic/code/plqp0064kb_a.pdf
footprint PLQP0064KB-A_N (Shrink QFP, 64-Leads, Body 10x10mm, Pitch 0.5mm, IPC Medium Density)
footprint PLQP0064KB-A_L (Shrink QFP, 64-Leads, Body 10x10mm, Pitch 0.5mm, IPC High Density)
footprint PLQP0064KB-A_M (Shrink QFP, 64-Leads, Body 10x10mm, Pitch 0.5mm, IPC Low Density)
part A pins: 1 PB6/AN6/DA0 (io), 2 PB7/AN7/DA1 (io), 4 X2 (out), 5 X1 (in), 7 ~{RES} (in), 8 TEST (in), 10 PJ1/OSC2 (io), 11 PJ0/OSC1 (io), 13 P37/TXD_3 (io), 14 P36/RXD_3 (io), 15 P35/SCK3_3 (io), 16 P34/FTCI (io), 17 P33/FTIOD (io), 18 P32/FTIOC (io), 19 P31/FTIOB (io), 20 P30/FTIOA (io), 21 P15/~{IRQ5} (io), 22 P16/~{IRQ6} (io), 23 P17/~{IRQ7} (io), 24 P54/SSO (io), 25 P55/SSCK (io), 26 P56/SDA/~{SCS} (io), 27 P57/SCL/SSI (io), 28 P53/TGIOB (io), 29 P52/TGIOA (io), 30 P51/TCLKB (io), 31 P50/TCLKA (io), 32 P63/FTIOD0 (io), 33 P62/FTIOC0 (io), 34 P61/FTIOB0 (io), 35 ~{NMI} (in), 36 P60/FTIOA0 (io), 37 P64/FTIOA1 (io), 38 P65/FTIOB1 (io), 39 P66/FTIOC1 (io), 40 P67/FTIOD1 (io), 41 P85/TRAIO (io), 42 P86/TRBO (io), 43 P87/TREO (io), 44 P20/SCK3 (io), 45 P21/RXD (io), 46 P22/TXD (io), 47 P23/~{TRCOI} (io), 48 P25/SCK3_2 (io), 49 P26/RXD_2 (io), 50 P27/TXD_2 (io), 51 P24/~{TRDOI_0} (io), 52 P11/~{IRQ1} (io), 53 P12/~{IRQ2} (io), 54 P13/~{IRQ3} (io), 55 PA4 (io), 56 PA5 (io), 57 PA6 (io), 58 PA7 (io), 59 PB3/AN3 (io), 60 PB2/AN2 (io), 61 PB1/AN1 (io), 62 PB0/AN0 (io), 63 PB4/AN4 (io), 64 PB5/AN5 (io)
part B pins: 3 AVCC (power), 6 AVSS (power), 9 VSS (power), 12 VCC (power)

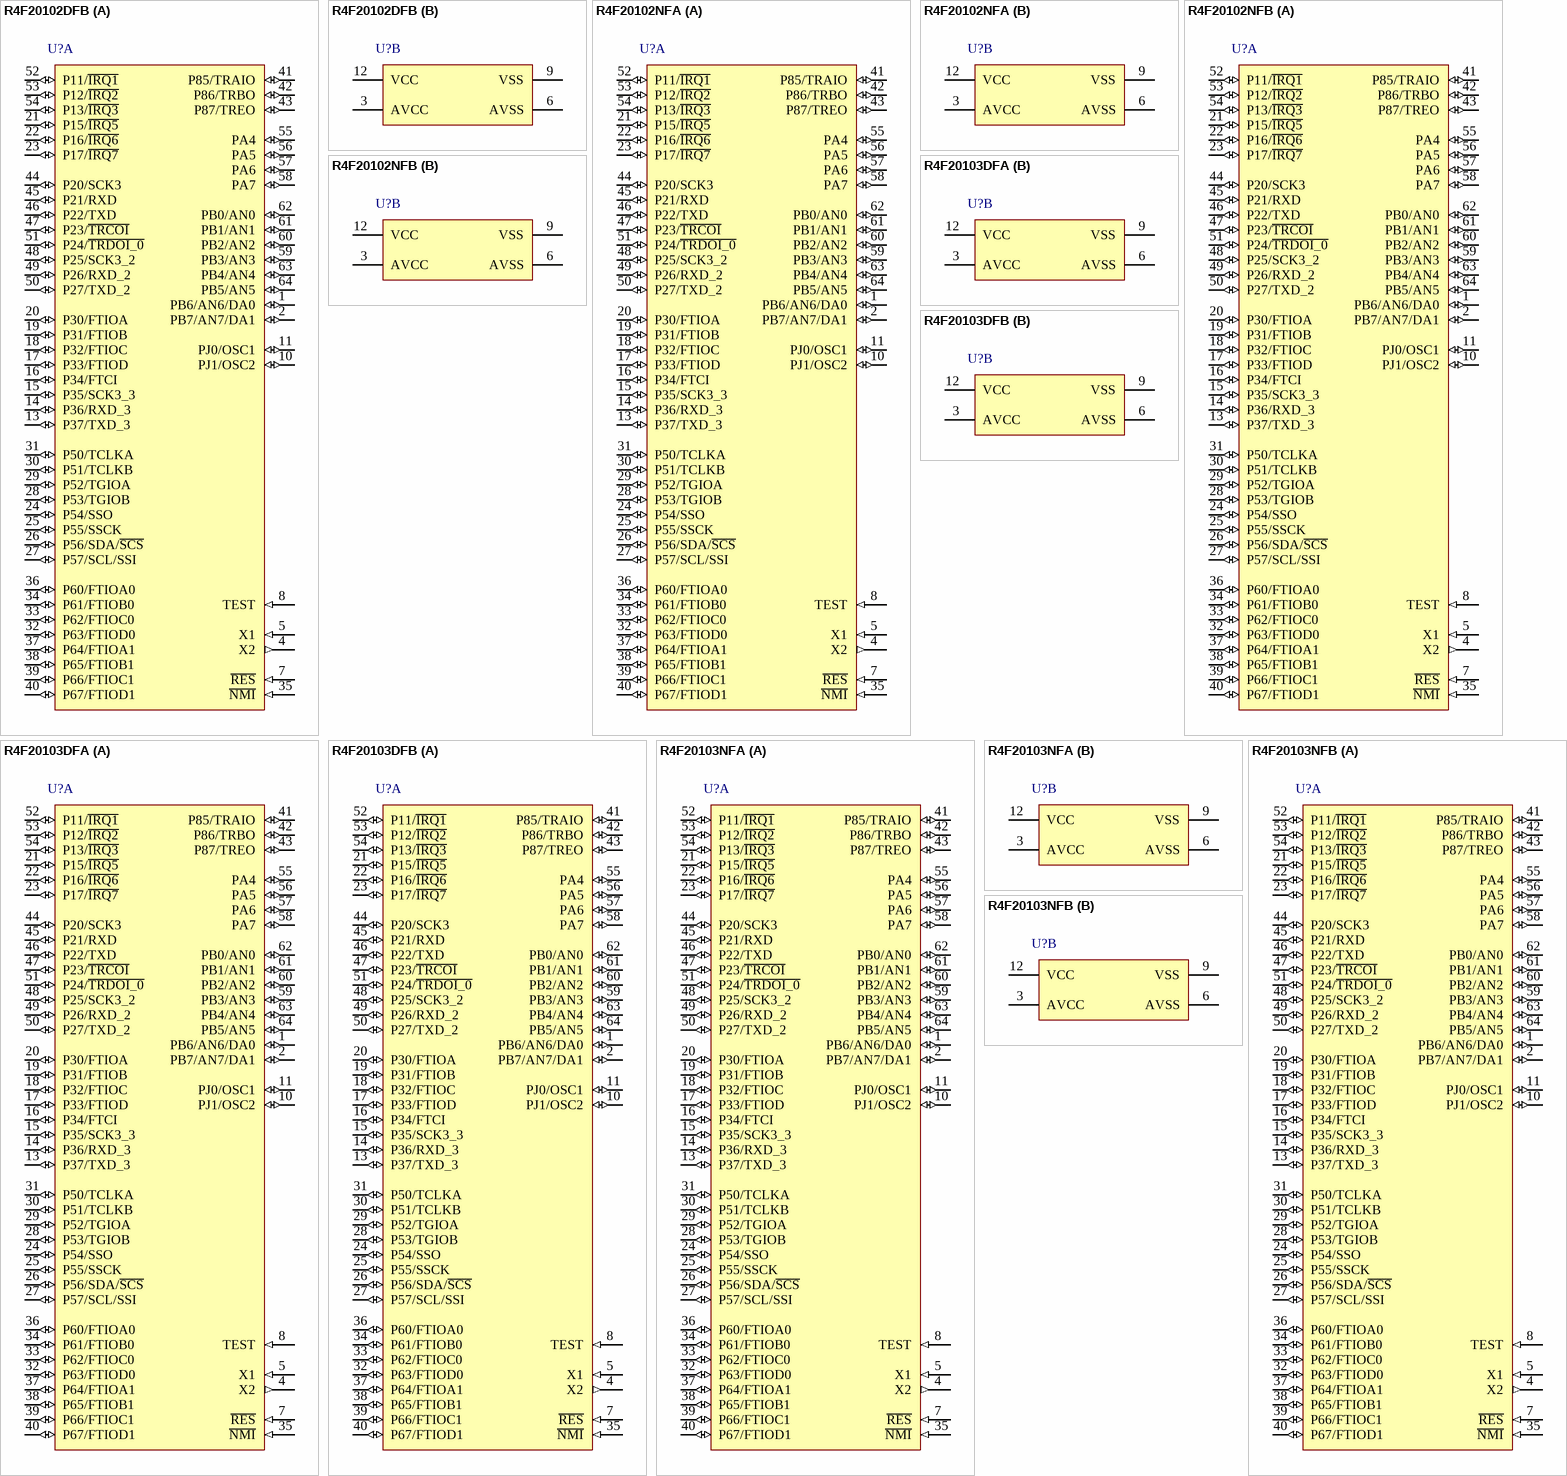
[diagram p227: symbols R4F20102DFB to R4F20103NFB]

## R4F20102DFB
designator U?
Flash memory H8S/Tiny Series, 20103 Group MCU, 96K ROM, 8K RAM, 64P6U-A Pkg; Published: 28-Aug-2009; DatasheetVersion: Rev.2.00, Jun-2009; PackageVersion: Oct-2005; PackageReference: PLQP0064GA-A; Publisher: Altium Limited; PackageDescription: 64-Pin Plastic Low Profile QFP, 14 x 14 x 1.4 mm Body, 0.8 mm Pitch; Code_JEITA: P-LQFP64-14x14-0.80; ComponentLink1Description: Manufacturer Link; ComponentLink1URL: http://sg.renesas.com/fmwk.jsp?cnt=h8s_family_landing.jsp&fp=/products/mpumcu/h8s_family/; ComponentLink2Description: Datasheet; ComponentLink2URL: http://documentation.renesas.com/eng/products/mpumcu/rej09b0465_h8s20103hm.pdf; ComponentLink3Description: Packaging Specification; ComponentLink3URL: http://sg.renesas.com/media/products/common_info/package/pdf/ic/code/plqp0064ga_a.pdf
footprint PLQP0064GA-A_N (QFP, 64-Leads, Body 14x14mm, Pitch 0.8mm, IPC Medium Density)
footprint PLQP0064GA-A_L (QFP, 64-Leads, Body 14x14mm, Pitch 0.8mm, IPC High Density)
footprint PLQP0064GA-A_M (QFP, 64-Leads, Body 14x14mm, Pitch 0.8mm, IPC Low Density)
part A pins: 1 PB6/AN6/DA0 (io), 2 PB7/AN7/DA1 (io), 4 X2 (out), 5 X1 (in), 7 ~{RES} (in), 8 TEST (in), 10 PJ1/OSC2 (io), 11 PJ0/OSC1 (io), 13 P37/TXD_3 (io), 14 P36/RXD_3 (io), 15 P35/SCK3_3 (io), 16 P34/FTCI (io), 17 P33/FTIOD (io), 18 P32/FTIOC (io), 19 P31/FTIOB (io), 20 P30/FTIOA (io), 21 P15/~{IRQ5} (io), 22 P16/~{IRQ6} (io), 23 P17/~{IRQ7} (io), 24 P54/SSO (io), 25 P55/SSCK (io), 26 P56/SDA/~{SCS} (io), 27 P57/SCL/SSI (io), 28 P53/TGIOB (io), 29 P52/TGIOA (io), 30 P51/TCLKB (io), 31 P50/TCLKA (io), 32 P63/FTIOD0 (io), 33 P62/FTIOC0 (io), 34 P61/FTIOB0 (io), 35 ~{NMI} (in), 36 P60/FTIOA0 (io), 37 P64/FTIOA1 (io), 38 P65/FTIOB1 (io), 39 P66/FTIOC1 (io), 40 P67/FTIOD1 (io), 41 P85/TRAIO (io), 42 P86/TRBO (io), 43 P87/TREO (io), 44 P20/SCK3 (io), 45 P21/RXD (io), 46 P22/TXD (io), 47 P23/~{TRCOI} (io), 48 P25/SCK3_2 (io), 49 P26/RXD_2 (io), 50 P27/TXD_2 (io), 51 P24/~{TRDOI_0} (io), 52 P11/~{IRQ1} (io), 53 P12/~{IRQ2} (io), 54 P13/~{IRQ3} (io), 55 PA4 (io), 56 PA5 (io), 57 PA6 (io), 58 PA7 (io), 59 PB3/AN3 (io), 60 PB2/AN2 (io), 61 PB1/AN1 (io), 62 PB0/AN0 (io), 63 PB4/AN4 (io), 64 PB5/AN5 (io)
part B pins: 3 AVCC (power), 6 AVSS (power), 9 VSS (power), 12 VCC (power)

## R4F20102NFA
designator U?
Flash memory H8S/Tiny Series, 20103 Group MCU, 96K ROM, 8K RAM, 64P6Q-A Pkg; Published: 28-Aug-2009; DatasheetVersion: Rev.2.00, Jun-2009; PackageVersion: Sep-2005; PackageReference: PLQP0064KB-A; Publisher: Altium Limited; PackageDescription: 64-Pin Plastic Low Profile QFP, 10 x 10 x 1.4 mm Body, 0.5 mm Pitch; Code_JEITA: P-LQFP64-10x10-0.50; Code_IPC: SQFP50P1200X1200-64; ComponentLink1Description: Manufacturer Link; ComponentLink1URL: http://sg.renesas.com/fmwk.jsp?cnt=h8s_family_landing.jsp&fp=/products/mpumcu/h8s_family/; ComponentLink2Description: Datasheet; ComponentLink2URL: http://documentation.renesas.com/eng/products/mpumcu/rej09b0465_h8s20103hm.pdf; ComponentLink3Description: Packaging Specification; ComponentLink3URL: http://sg.renesas.com/media/products/common_info/package/pdf/ic/code/plqp0064kb_a.pdf
footprint PLQP0064KB-A_N (Shrink QFP, 64-Leads, Body 10x10mm, Pitch 0.5mm, IPC Medium Density)
footprint PLQP0064KB-A_L (Shrink QFP, 64-Leads, Body 10x10mm, Pitch 0.5mm, IPC High Density)
footprint PLQP0064KB-A_M (Shrink QFP, 64-Leads, Body 10x10mm, Pitch 0.5mm, IPC Low Density)
part A pins: 1 PB6/AN6/DA0 (io), 2 PB7/AN7/DA1 (io), 4 X2 (out), 5 X1 (in), 7 ~{RES} (in), 8 TEST (in), 10 PJ1/OSC2 (io), 11 PJ0/OSC1 (io), 13 P37/TXD_3 (io), 14 P36/RXD_3 (io), 15 P35/SCK3_3 (io), 16 P34/FTCI (io), 17 P33/FTIOD (io), 18 P32/FTIOC (io), 19 P31/FTIOB (io), 20 P30/FTIOA (io), 21 P15/~{IRQ5} (io), 22 P16/~{IRQ6} (io), 23 P17/~{IRQ7} (io), 24 P54/SSO (io), 25 P55/SSCK (io), 26 P56/SDA/~{SCS} (io), 27 P57/SCL/SSI (io), 28 P53/TGIOB (io), 29 P52/TGIOA (io), 30 P51/TCLKB (io), 31 P50/TCLKA (io), 32 P63/FTIOD0 (io), 33 P62/FTIOC0 (io), 34 P61/FTIOB0 (io), 35 ~{NMI} (in), 36 P60/FTIOA0 (io), 37 P64/FTIOA1 (io), 38 P65/FTIOB1 (io), 39 P66/FTIOC1 (io), 40 P67/FTIOD1 (io), 41 P85/TRAIO (io), 42 P86/TRBO (io), 43 P87/TREO (io), 44 P20/SCK3 (io), 45 P21/RXD (io), 46 P22/TXD (io), 47 P23/~{TRCOI} (io), 48 P25/SCK3_2 (io), 49 P26/RXD_2 (io), 50 P27/TXD_2 (io), 51 P24/~{TRDOI_0} (io), 52 P11/~{IRQ1} (io), 53 P12/~{IRQ2} (io), 54 P13/~{IRQ3} (io), 55 PA4 (io), 56 PA5 (io), 57 PA6 (io), 58 PA7 (io), 59 PB3/AN3 (io), 60 PB2/AN2 (io), 61 PB1/AN1 (io), 62 PB0/AN0 (io), 63 PB4/AN4 (io), 64 PB5/AN5 (io)
part B pins: 3 AVCC (power), 6 AVSS (power), 9 VSS (power), 12 VCC (power)

## R4F20102NFB
designator U?
Flash memory H8S/Tiny Series, 20103 Group MCU, 96K ROM, 8K RAM, 64P6U-A Pkg; Published: 28-Aug-2009; DatasheetVersion: Rev.2.00, Jun-2009; PackageVersion: Oct-2005; PackageReference: PLQP0064GA-A; Publisher: Altium Limited; PackageDescription: 64-Pin Plastic Low Profile QFP, 14 x 14 x 1.4 mm Body, 0.8 mm Pitch; Code_JEITA: P-LQFP64-14x14-0.80; ComponentLink1Description: Manufacturer Link; ComponentLink1URL: http://sg.renesas.com/fmwk.jsp?cnt=h8s_family_landing.jsp&fp=/products/mpumcu/h8s_family/; ComponentLink2Description: Datasheet; ComponentLink2URL: http://documentation.renesas.com/eng/products/mpumcu/rej09b0465_h8s20103hm.pdf; ComponentLink3Description: Packaging Specification; ComponentLink3URL: http://sg.renesas.com/media/products/common_info/package/pdf/ic/code/plqp0064ga_a.pdf
footprint PLQP0064GA-A_N (QFP, 64-Leads, Body 14x14mm, Pitch 0.8mm, IPC Medium Density)
footprint PLQP0064GA-A_L (QFP, 64-Leads, Body 14x14mm, Pitch 0.8mm, IPC High Density)
footprint PLQP0064GA-A_M (QFP, 64-Leads, Body 14x14mm, Pitch 0.8mm, IPC Low Density)
part A pins: 1 PB6/AN6/DA0 (io), 2 PB7/AN7/DA1 (io), 4 X2 (out), 5 X1 (in), 7 ~{RES} (in), 8 TEST (in), 10 PJ1/OSC2 (io), 11 PJ0/OSC1 (io), 13 P37/TXD_3 (io), 14 P36/RXD_3 (io), 15 P35/SCK3_3 (io), 16 P34/FTCI (io), 17 P33/FTIOD (io), 18 P32/FTIOC (io), 19 P31/FTIOB (io), 20 P30/FTIOA (io), 21 P15/~{IRQ5} (io), 22 P16/~{IRQ6} (io), 23 P17/~{IRQ7} (io), 24 P54/SSO (io), 25 P55/SSCK (io), 26 P56/SDA/~{SCS} (io), 27 P57/SCL/SSI (io), 28 P53/TGIOB (io), 29 P52/TGIOA (io), 30 P51/TCLKB (io), 31 P50/TCLKA (io), 32 P63/FTIOD0 (io), 33 P62/FTIOC0 (io), 34 P61/FTIOB0 (io), 35 ~{NMI} (in), 36 P60/FTIOA0 (io), 37 P64/FTIOA1 (io), 38 P65/FTIOB1 (io), 39 P66/FTIOC1 (io), 40 P67/FTIOD1 (io), 41 P85/TRAIO (io), 42 P86/TRBO (io), 43 P87/TREO (io), 44 P20/SCK3 (io), 45 P21/RXD (io), 46 P22/TXD (io), 47 P23/~{TRCOI} (io), 48 P25/SCK3_2 (io), 49 P26/RXD_2 (io), 50 P27/TXD_2 (io), 51 P24/~{TRDOI_0} (io), 52 P11/~{IRQ1} (io), 53 P12/~{IRQ2} (io), 54 P13/~{IRQ3} (io), 55 PA4 (io), 56 PA5 (io), 57 PA6 (io), 58 PA7 (io), 59 PB3/AN3 (io), 60 PB2/AN2 (io), 61 PB1/AN1 (io), 62 PB0/AN0 (io), 63 PB4/AN4 (io), 64 PB5/AN5 (io)
part B pins: 3 AVCC (power), 6 AVSS (power), 9 VSS (power), 12 VCC (power)

## R4F20103DFA
designator U?
Flash memory H8S/Tiny Series, 20103 Group MCU, 128K ROM, 8K RAM, 64P6Q-A Pkg; Published: 28-Aug-2009; DatasheetVersion: Rev.2.00, Jun-2009; PackageVersion: Sep-2005; PackageReference: PLQP0064KB-A; Publisher: Altium Limited; PackageDescription: 64-Pin Plastic Low Profile QFP, 10 x 10 x 1.4 mm Body, 0.5 mm Pitch; Code_JEITA: P-LQFP64-10x10-0.50; Code_IPC: SQFP50P1200X1200-64; ComponentLink1Description: Manufacturer Link; ComponentLink1URL: http://sg.renesas.com/fmwk.jsp?cnt=h8s_family_landing.jsp&fp=/products/mpumcu/h8s_family/; ComponentLink2Description: Datasheet; ComponentLink2URL: http://documentation.renesas.com/eng/products/mpumcu/rej09b0465_h8s20103hm.pdf; ComponentLink3Description: Packaging Specification; ComponentLink3URL: http://sg.renesas.com/media/products/common_info/package/pdf/ic/code/plqp0064kb_a.pdf
footprint PLQP0064KB-A_N (Shrink QFP, 64-Leads, Body 10x10mm, Pitch 0.5mm, IPC Medium Density)
footprint PLQP0064KB-A_L (Shrink QFP, 64-Leads, Body 10x10mm, Pitch 0.5mm, IPC High Density)
footprint PLQP0064KB-A_M (Shrink QFP, 64-Leads, Body 10x10mm, Pitch 0.5mm, IPC Low Density)
part A pins: 1 PB6/AN6/DA0 (io), 2 PB7/AN7/DA1 (io), 4 X2 (out), 5 X1 (in), 7 ~{RES} (in), 8 TEST (in), 10 PJ1/OSC2 (io), 11 PJ0/OSC1 (io), 13 P37/TXD_3 (io), 14 P36/RXD_3 (io), 15 P35/SCK3_3 (io), 16 P34/FTCI (io), 17 P33/FTIOD (io), 18 P32/FTIOC (io), 19 P31/FTIOB (io), 20 P30/FTIOA (io), 21 P15/~{IRQ5} (io), 22 P16/~{IRQ6} (io), 23 P17/~{IRQ7} (io), 24 P54/SSO (io), 25 P55/SSCK (io), 26 P56/SDA/~{SCS} (io), 27 P57/SCL/SSI (io), 28 P53/TGIOB (io), 29 P52/TGIOA (io), 30 P51/TCLKB (io), 31 P50/TCLKA (io), 32 P63/FTIOD0 (io), 33 P62/FTIOC0 (io), 34 P61/FTIOB0 (io), 35 ~{NMI} (in), 36 P60/FTIOA0 (io), 37 P64/FTIOA1 (io), 38 P65/FTIOB1 (io), 39 P66/FTIOC1 (io), 40 P67/FTIOD1 (io), 41 P85/TRAIO (io), 42 P86/TRBO (io), 43 P87/TREO (io), 44 P20/SCK3 (io), 45 P21/RXD (io), 46 P22/TXD (io), 47 P23/~{TRCOI} (io), 48 P25/SCK3_2 (io), 49 P26/RXD_2 (io), 50 P27/TXD_2 (io), 51 P24/~{TRDOI_0} (io), 52 P11/~{IRQ1} (io), 53 P12/~{IRQ2} (io), 54 P13/~{IRQ3} (io), 55 PA4 (io), 56 PA5 (io), 57 PA6 (io), 58 PA7 (io), 59 PB3/AN3 (io), 60 PB2/AN2 (io), 61 PB1/AN1 (io), 62 PB0/AN0 (io), 63 PB4/AN4 (io), 64 PB5/AN5 (io)
part B pins: 3 AVCC (power), 6 AVSS (power), 9 VSS (power), 12 VCC (power)

## R4F20103DFB
designator U?
Flash memory H8S/Tiny Series, 20103 Group MCU, 128K ROM, 8K RAM, 64P6U-A Pkg; Published: 28-Aug-2009; DatasheetVersion: Rev.2.00, Jun-2009; PackageVersion: Oct-2005; PackageReference: PLQP0064GA-A; Publisher: Altium Limited; PackageDescription: 64-Pin Plastic Low Profile QFP, 14 x 14 x 1.4 mm Body, 0.8 mm Pitch; Code_JEITA: P-LQFP64-14x14-0.80; ComponentLink1Description: Manufacturer Link; ComponentLink1URL: http://sg.renesas.com/fmwk.jsp?cnt=h8s_family_landing.jsp&fp=/products/mpumcu/h8s_family/; ComponentLink2Description: Datasheet; ComponentLink2URL: http://documentation.renesas.com/eng/products/mpumcu/rej09b0465_h8s20103hm.pdf; ComponentLink3Description: Packaging Specification; ComponentLink3URL: http://sg.renesas.com/media/products/common_info/package/pdf/ic/code/plqp0064ga_a.pdf
footprint PLQP0064GA-A_N (QFP, 64-Leads, Body 14x14mm, Pitch 0.8mm, IPC Medium Density)
footprint PLQP0064GA-A_L (QFP, 64-Leads, Body 14x14mm, Pitch 0.8mm, IPC High Density)
footprint PLQP0064GA-A_M (QFP, 64-Leads, Body 14x14mm, Pitch 0.8mm, IPC Low Density)
part A pins: 1 PB6/AN6/DA0 (io), 2 PB7/AN7/DA1 (io), 4 X2 (out), 5 X1 (in), 7 ~{RES} (in), 8 TEST (in), 10 PJ1/OSC2 (io), 11 PJ0/OSC1 (io), 13 P37/TXD_3 (io), 14 P36/RXD_3 (io), 15 P35/SCK3_3 (io), 16 P34/FTCI (io), 17 P33/FTIOD (io), 18 P32/FTIOC (io), 19 P31/FTIOB (io), 20 P30/FTIOA (io), 21 P15/~{IRQ5} (io), 22 P16/~{IRQ6} (io), 23 P17/~{IRQ7} (io), 24 P54/SSO (io), 25 P55/SSCK (io), 26 P56/SDA/~{SCS} (io), 27 P57/SCL/SSI (io), 28 P53/TGIOB (io), 29 P52/TGIOA (io), 30 P51/TCLKB (io), 31 P50/TCLKA (io), 32 P63/FTIOD0 (io), 33 P62/FTIOC0 (io), 34 P61/FTIOB0 (io), 35 ~{NMI} (in), 36 P60/FTIOA0 (io), 37 P64/FTIOA1 (io), 38 P65/FTIOB1 (io), 39 P66/FTIOC1 (io), 40 P67/FTIOD1 (io), 41 P85/TRAIO (io), 42 P86/TRBO (io), 43 P87/TREO (io), 44 P20/SCK3 (io), 45 P21/RXD (io), 46 P22/TXD (io), 47 P23/~{TRCOI} (io), 48 P25/SCK3_2 (io), 49 P26/RXD_2 (io), 50 P27/TXD_2 (io), 51 P24/~{TRDOI_0} (io), 52 P11/~{IRQ1} (io), 53 P12/~{IRQ2} (io), 54 P13/~{IRQ3} (io), 55 PA4 (io), 56 PA5 (io), 57 PA6 (io), 58 PA7 (io), 59 PB3/AN3 (io), 60 PB2/AN2 (io), 61 PB1/AN1 (io), 62 PB0/AN0 (io), 63 PB4/AN4 (io), 64 PB5/AN5 (io)
part B pins: 3 AVCC (power), 6 AVSS (power), 9 VSS (power), 12 VCC (power)

## R4F20103NFA
designator U?
Flash memory H8S/Tiny Series, 20103 Group MCU, 128K ROM, 8K RAM, 64P6Q-A Pkg; Published: 28-Aug-2009; DatasheetVersion: Rev.2.00, Jun-2009; PackageVersion: Sep-2005; PackageReference: PLQP0064KB-A; Publisher: Altium Limited; PackageDescription: 64-Pin Plastic Low Profile QFP, 10 x 10 x 1.4 mm Body, 0.5 mm Pitch; Code_JEITA: P-LQFP64-10x10-0.50; Code_IPC: SQFP50P1200X1200-64; ComponentLink1Description: Manufacturer Link; ComponentLink1URL: http://sg.renesas.com/fmwk.jsp?cnt=h8s_family_landing.jsp&fp=/products/mpumcu/h8s_family/; ComponentLink2Description: Datasheet; ComponentLink2URL: http://documentation.renesas.com/eng/products/mpumcu/rej09b0465_h8s20103hm.pdf; ComponentLink3Description: Packaging Specification; ComponentLink3URL: http://sg.renesas.com/media/products/common_info/package/pdf/ic/code/plqp0064kb_a.pdf
footprint PLQP0064KB-A_N (Shrink QFP, 64-Leads, Body 10x10mm, Pitch 0.5mm, IPC Medium Density)
footprint PLQP0064KB-A_L (Shrink QFP, 64-Leads, Body 10x10mm, Pitch 0.5mm, IPC High Density)
footprint PLQP0064KB-A_M (Shrink QFP, 64-Leads, Body 10x10mm, Pitch 0.5mm, IPC Low Density)
part A pins: 1 PB6/AN6/DA0 (io), 2 PB7/AN7/DA1 (io), 4 X2 (out), 5 X1 (in), 7 ~{RES} (in), 8 TEST (in), 10 PJ1/OSC2 (io), 11 PJ0/OSC1 (io), 13 P37/TXD_3 (io), 14 P36/RXD_3 (io), 15 P35/SCK3_3 (io), 16 P34/FTCI (io), 17 P33/FTIOD (io), 18 P32/FTIOC (io), 19 P31/FTIOB (io), 20 P30/FTIOA (io), 21 P15/~{IRQ5} (io), 22 P16/~{IRQ6} (io), 23 P17/~{IRQ7} (io), 24 P54/SSO (io), 25 P55/SSCK (io), 26 P56/SDA/~{SCS} (io), 27 P57/SCL/SSI (io), 28 P53/TGIOB (io), 29 P52/TGIOA (io), 30 P51/TCLKB (io), 31 P50/TCLKA (io), 32 P63/FTIOD0 (io), 33 P62/FTIOC0 (io), 34 P61/FTIOB0 (io), 35 ~{NMI} (in), 36 P60/FTIOA0 (io), 37 P64/FTIOA1 (io), 38 P65/FTIOB1 (io), 39 P66/FTIOC1 (io), 40 P67/FTIOD1 (io), 41 P85/TRAIO (io), 42 P86/TRBO (io), 43 P87/TREO (io), 44 P20/SCK3 (io), 45 P21/RXD (io), 46 P22/TXD (io), 47 P23/~{TRCOI} (io), 48 P25/SCK3_2 (io), 49 P26/RXD_2 (io), 50 P27/TXD_2 (io), 51 P24/~{TRDOI_0} (io), 52 P11/~{IRQ1} (io), 53 P12/~{IRQ2} (io), 54 P13/~{IRQ3} (io), 55 PA4 (io), 56 PA5 (io), 57 PA6 (io), 58 PA7 (io), 59 PB3/AN3 (io), 60 PB2/AN2 (io), 61 PB1/AN1 (io), 62 PB0/AN0 (io), 63 PB4/AN4 (io), 64 PB5/AN5 (io)
part B pins: 3 AVCC (power), 6 AVSS (power), 9 VSS (power), 12 VCC (power)

## R4F20103NFB
designator U?
Flash memory H8S/Tiny Series, 20103 Group MCU, 128K ROM, 8K RAM, 64P6U-A Pkg; Published: 28-Aug-2009; DatasheetVersion: Rev.2.00, Jun-2009; PackageVersion: Oct-2005; PackageReference: PLQP0064GA-A; Publisher: Altium Limited; PackageDescription: 64-Pin Plastic Low Profile QFP, 14 x 14 x 1.4 mm Body, 0.8 mm Pitch; Code_JEITA: P-LQFP64-14x14-0.80; ComponentLink1Description: Manufacturer Link; ComponentLink1URL: http://sg.renesas.com/fmwk.jsp?cnt=h8s_family_landing.jsp&fp=/products/mpumcu/h8s_family/; ComponentLink2Description: Datasheet; ComponentLink2URL: http://documentation.renesas.com/eng/products/mpumcu/rej09b0465_h8s20103hm.pdf; ComponentLink3Description: Packaging Specification; ComponentLink3URL: http://sg.renesas.com/media/products/common_info/package/pdf/ic/code/plqp0064ga_a.pdf
footprint PLQP0064GA-A_N (QFP, 64-Leads, Body 14x14mm, Pitch 0.8mm, IPC Medium Density)
footprint PLQP0064GA-A_L (QFP, 64-Leads, Body 14x14mm, Pitch 0.8mm, IPC High Density)
footprint PLQP0064GA-A_M (QFP, 64-Leads, Body 14x14mm, Pitch 0.8mm, IPC Low Density)
part A pins: 1 PB6/AN6/DA0 (io), 2 PB7/AN7/DA1 (io), 4 X2 (out), 5 X1 (in), 7 ~{RES} (in), 8 TEST (in), 10 PJ1/OSC2 (io), 11 PJ0/OSC1 (io), 13 P37/TXD_3 (io), 14 P36/RXD_3 (io), 15 P35/SCK3_3 (io), 16 P34/FTCI (io), 17 P33/FTIOD (io), 18 P32/FTIOC (io), 19 P31/FTIOB (io), 20 P30/FTIOA (io), 21 P15/~{IRQ5} (io), 22 P16/~{IRQ6} (io), 23 P17/~{IRQ7} (io), 24 P54/SSO (io), 25 P55/SSCK (io), 26 P56/SDA/~{SCS} (io), 27 P57/SCL/SSI (io), 28 P53/TGIOB (io), 29 P52/TGIOA (io), 30 P51/TCLKB (io), 31 P50/TCLKA (io), 32 P63/FTIOD0 (io), 33 P62/FTIOC0 (io), 34 P61/FTIOB0 (io), 35 ~{NMI} (in), 36 P60/FTIOA0 (io), 37 P64/FTIOA1 (io), 38 P65/FTIOB1 (io), 39 P66/FTIOC1 (io), 40 P67/FTIOD1 (io), 41 P85/TRAIO (io), 42 P86/TRBO (io), 43 P87/TREO (io), 44 P20/SCK3 (io), 45 P21/RXD (io), 46 P22/TXD (io), 47 P23/~{TRCOI} (io), 48 P25/SCK3_2 (io), 49 P26/RXD_2 (io), 50 P27/TXD_2 (io), 51 P24/~{TRDOI_0} (io), 52 P11/~{IRQ1} (io), 53 P12/~{IRQ2} (io), 54 P13/~{IRQ3} (io), 55 PA4 (io), 56 PA5 (io), 57 PA6 (io), 58 PA7 (io), 59 PB3/AN3 (io), 60 PB2/AN2 (io), 61 PB1/AN1 (io), 62 PB0/AN0 (io), 63 PB4/AN4 (io), 64 PB5/AN5 (io)
part B pins: 3 AVCC (power), 6 AVSS (power), 9 VSS (power), 12 VCC (power)

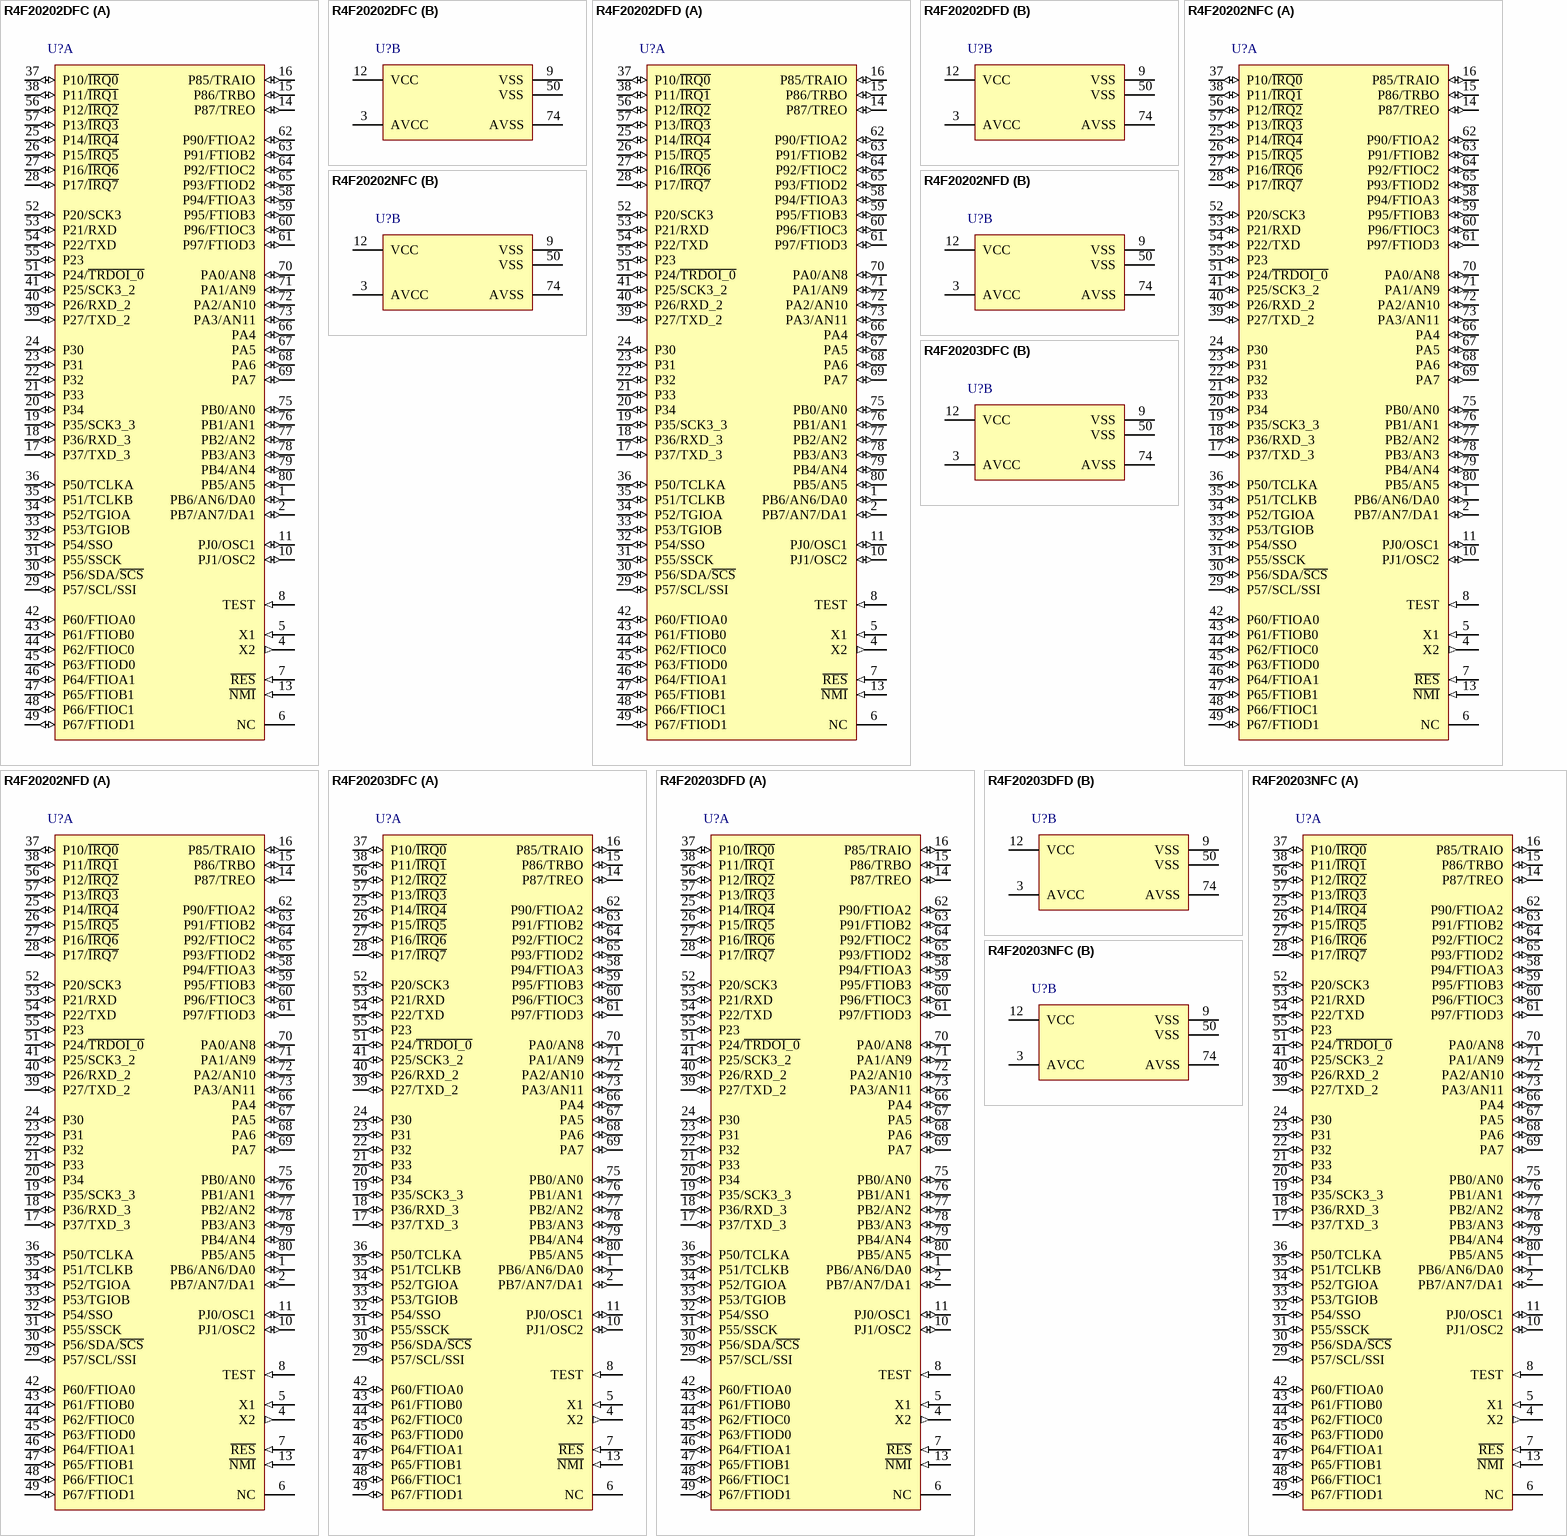
[diagram p228: symbols R4F20202DFC to R4F20203NFC]

## R4F20202DFC
designator U?
Flash memory H8S/Tiny Series, 20203 Group MCU, 96K ROM, 8K RAM, 80P6Q-A Pkg; Published: 28-Aug-2009; DatasheetVersion: Rev.2.00, Jun-2009; PackageVersion: Sep-2005; PackageReference: PLQP0080KB-A; Publisher: Altium Limited; PackageDescription: 80-Pin Plastic Low Profile QFP, 12 x 12 x 1.4 mm Body, 0.5 mm Pitch; Code_JEITA: P-LQFP80-12x12-0.50; Code_IPC: SQFP50P1400X1400-80; ComponentLink1Description: Manufacturer Link; ComponentLink1URL: http://sg.renesas.com/fmwk.jsp?cnt=h8s_family_landing.jsp&fp=/products/mpumcu/h8s_family/; ComponentLink2Description: Datasheet; ComponentLink2URL: http://documentation.renesas.com/eng/products/mpumcu/rej09b0465_h8s20103hm.pdf; ComponentLink3Description: Packaging Specification; ComponentLink3URL: http://sg.renesas.com/media/products/common_info/package/pdf/ic/code/plqp0080kb_a.pdf
footprint PLQP0080KB-A_N (Shrink QFP, 80-Leads, Body 12x12mm, Pitch 0.5mm, IPC Medium Density)
footprint PLQP0080KB-A_L (Shrink QFP, 80-Leads, Body 12x12mm, Pitch 0.5mm, IPC High Density)
footprint PLQP0080KB-A_M (Shrink QFP, 80-Leads, Body 12x12mm, Pitch 0.5mm, IPC Low Density)
part A pins: 1 PB6/AN6/DA0 (io), 2 PB7/AN7/DA1 (io), 4 X2 (out), 5 X1 (in), 6 NC, 7 ~{RES} (in), 8 TEST (in), 10 PJ1/OSC2 (io), 11 PJ0/OSC1 (io), 13 ~{NMI} (in), 14 P87/TREO (io), 15 P86/TRBO (io), 16 P85/TRAIO (io), 17 P37/TXD_3 (io), 18 P36/RXD_3 (io), 19 P35/SCK3_3 (io), 20 P34 (io), 21 P33 (io), 22 P32 (io), 23 P31 (io), 24 P30 (io), 25 P14/~{IRQ4} (io), 26 P15/~{IRQ5} (io), 27 P16/~{IRQ6} (io), 28 P17/~{IRQ7} (io), 29 P57/SCL/SSI (io), 30 P56/SDA/~{SCS} (io), 31 P55/SSCK (io), 32 P54/SSO (io), 33 P53/TGIOB (io), 34 P52/TGIOA (io), 35 P51/TCLKB (io), 36 P50/TCLKA (io), 37 P10/~{IRQ0} (io), 38 P11/~{IRQ1} (io), 39 P27/TXD_2 (io), 40 P26/RXD_2 (io), 41 P25/SCK3_2 (io), 42 P60/FTIOA0 (io), 43 P61/FTIOB0 (io), 44 P62/FTIOC0 (io), 45 P63/FTIOD0 (io), 46 P64/FTIOA1 (io), 47 P65/FTIOB1 (io), 48 P66/FTIOC1 (io), 49 P67/FTIOD1 (io), 51 P24/~{TRDOI_0} (io), 52 P20/SCK3 (io), 53 P21/RXD (io), 54 P22/TXD (io), 55 P23 (io), 56 P12/~{IRQ2} (io), 57 P13/~{IRQ3} (io), 58 P94/FTIOA3 (io), 59 P95/FTIOB3 (io), 60 P96/FTIOC3 (io), 61 P97/FTIOD3 (io), 62 P90/FTIOA2 (io), 63 P91/FTIOB2 (io), 64 P92/FTIOC2 (io), 65 P93/FTIOD2 (io), 66 PA4 (io), 67 PA5 (io), 68 PA6 (io), 69 PA7 (io), 70 PA0/AN8 (io), 71 PA1/AN9 (io), 72 PA2/AN10 (io), 73 PA3/AN11 (io), 75 PB0/AN0 (io), 76 PB1/AN1 (io), 77 PB2/AN2 (io), 78 PB3/AN3 (io), 79 PB4/AN4 (io), 80 PB5/AN5 (io)
part B pins: 3 AVCC (power), 9 VSS (power), 12 VCC (power), 50 VSS (power), 74 AVSS (power)